# Altium integrated library Lattice FPGA ECP.IntLib: 165 symbols (part 1 of 27)
Pins are listed as number, name and electrical type; pins without a type are passive.

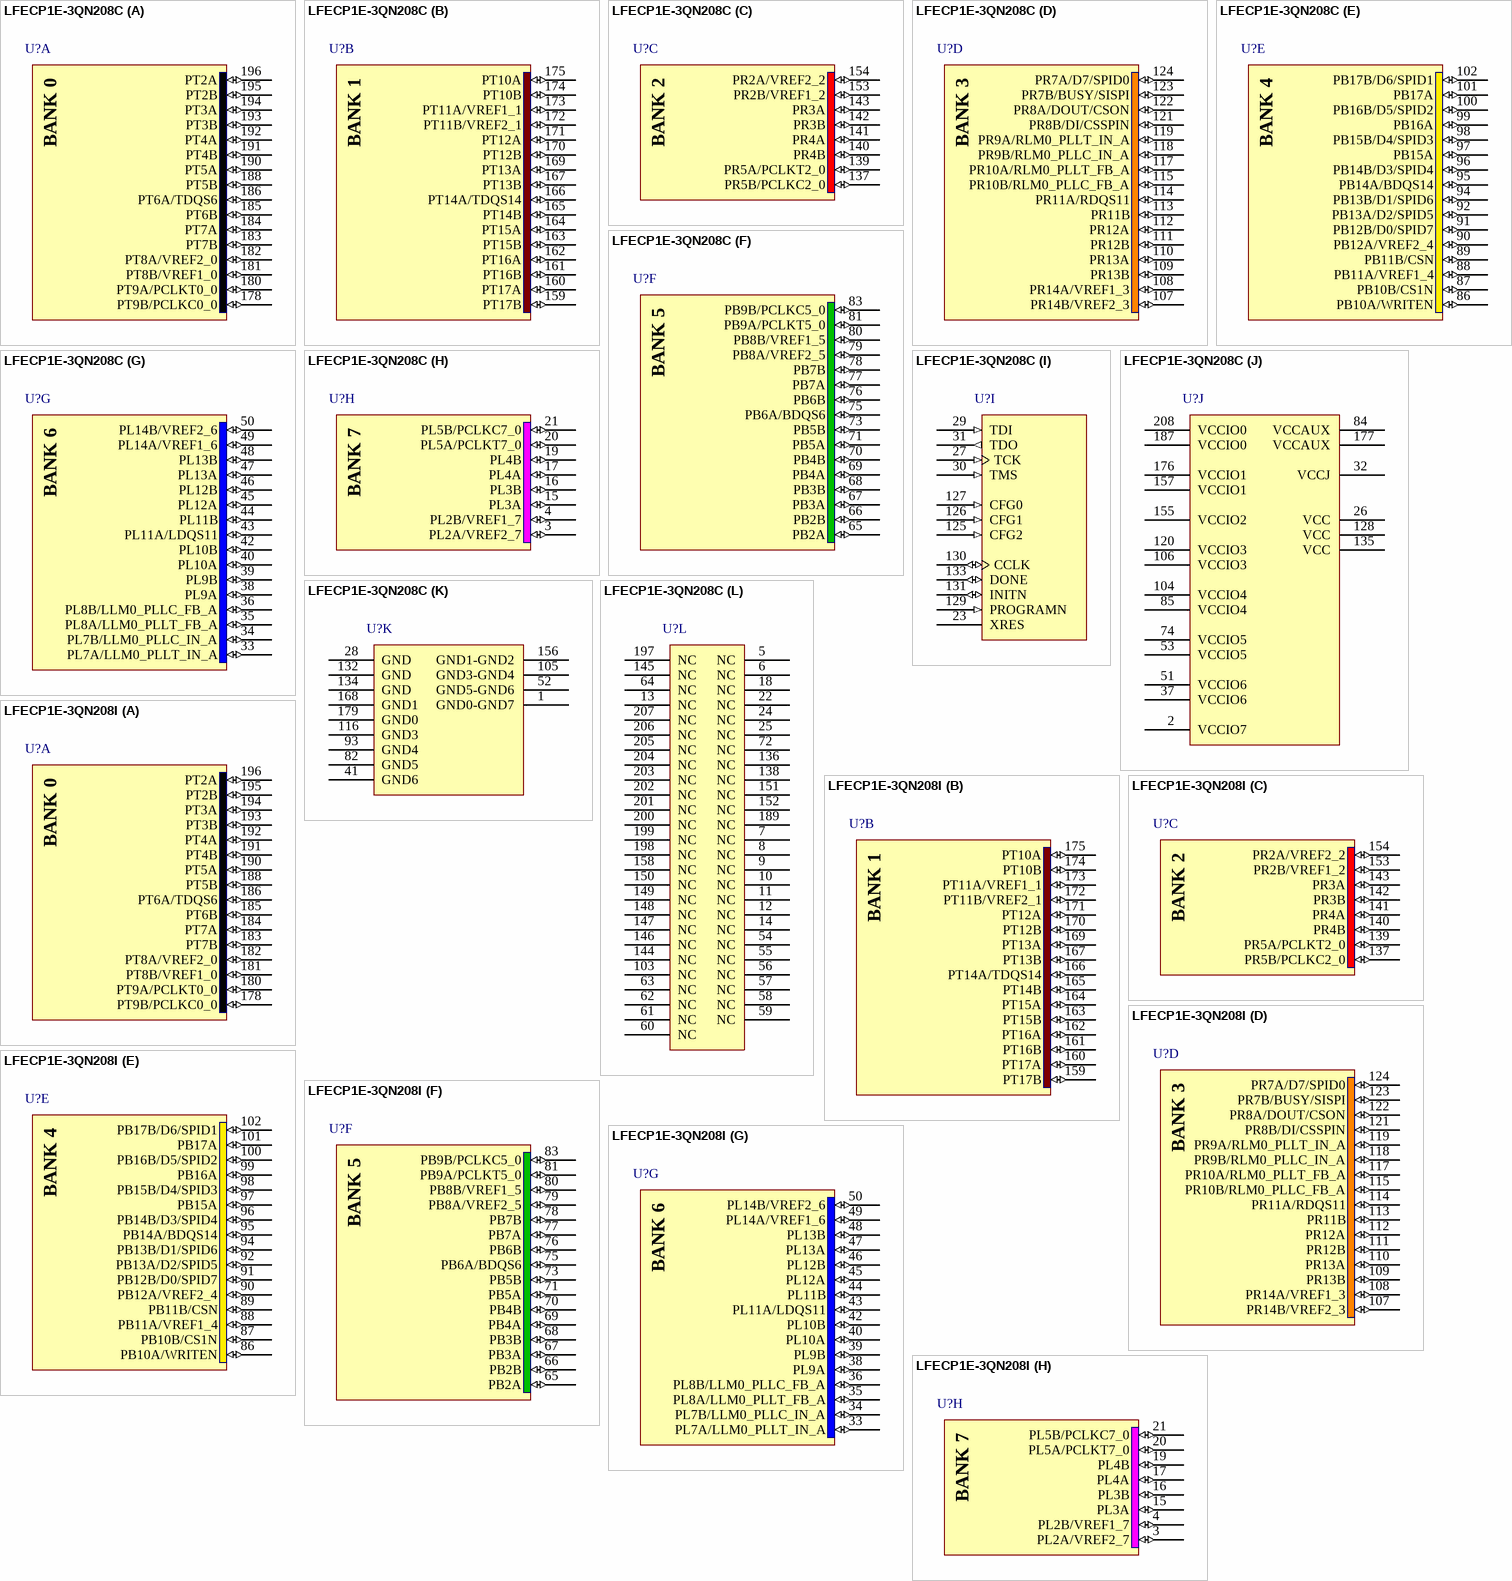
[diagram p0: symbols LFECP1E-3QN208C to LFECP1E-3QN208I]

## LFECP1E-3QN208C
designator U?
ECP 1.2V FPGA, 112 I/Os, 2 PLLs, 1.5K LUTs, 208-Pin PQFP, Pb-Free, Speed Grade 3, Commercial Temperature Grade; Note: Pins 1, 52, 105 and 156 are double bonded.; ComponentAvailability: Not Available; Published: 4-Mar-2005; LatestRevisionDate: 13-Apr-2006; LatestRevisionNote: IPC-7351 Footprint Added.; DatasheetVersion: Dec-2004; PackageVersion: pkg_33, Apr-2006; PackageReference: PQFP208; Publisher: Altium Limited; PackageDescription: 208-Pin Plastic Quad Flat Pack (PQFP208); Code_JEDEC: MO-143-FAI; ComponentLink1Description: Manufacturer Link; ComponentLink1URL: http://www.latticesemi.com/products/fpga/ecpec/index.cfm; ComponentLink2Description: Datasheet; ComponentLink2URL: http://www.latticesemi.com/lit/docs/datasheets/fpga/ecp_ec_datasheet.pdf; ComponentLink3Description: Packaging Specification; ComponentLink3URL: http://www.latticesemi.com/lit/docs/package/pkg.pdf; ComponentLink4Description: Lattice Login; ComponentLink4URL: http://www.latticesemi.com/account/login.cfm
footprint PQFP208_N (Shrink QFP, 208-Leads, Body 28x28mm, Pitch 0.5mm, IPC Medium Density)
footprint PQFP208_L (Shrink QFP, 208-Leads, Body 28x28mm, Pitch 0.5mm, IPC High Density)
footprint PQFP208_M (Shrink QFP, 208-Leads, Body 28x28mm, Pitch 0.5mm, IPC Low Density)
3D model ECP1E-PQFP-208 (208-Pin Plastic Quad Flat Pack (PQFP208))
part A pins: 178 PT9B/PCLKC0_0 (io), 180 PT9A/PCLKT0_0 (io), 181 PT8B/VREF1_0 (io), 182 PT8A/VREF2_0 (io), 183 PT7B (io), 184 PT7A (io), 185 PT6B (io), 186 PT6A/TDQS6 (io), 188 PT5B (io), 190 PT5A (io), 191 PT4B (io), 192 PT4A (io), 193 PT3B (io), 194 PT3A (io), 195 PT2B (io), 196 PT2A (io)
part B pins: 159 PT17B (io), 160 PT17A (io), 161 PT16B (io), 162 PT16A (io), 163 PT15B (io), 164 PT15A (io), 165 PT14B (io), 166 PT14A/TDQS14 (io), 167 PT13B (io), 169 PT13A (io), 170 PT12B (io), 171 PT12A (io), 172 PT11B/VREF2_1 (io), 173 PT11A/VREF1_1 (io), 174 PT10B (io), 175 PT10A (io)
part C pins: 137 PR5B/PCLKC2_0 (io), 139 PR5A/PCLKT2_0 (io), 140 PR4B (io), 141 PR4A (io), 142 PR3B (io), 143 PR3A (io), 153 PR2B/VREF1_2 (io), 154 PR2A/VREF2_2 (io)
part D pins: 107 PR14B/VREF2_3 (io), 108 PR14A/VREF1_3 (io), 109 PR13B (io), 110 PR13A (io), 111 PR12B (io), 112 PR12A (io), 113 PR11B (io), 114 PR11A/RDQS11 (io), 115 PR10B/RLM0_PLLC_FB_A (io), 117 PR10A/RLM0_PLLT_FB_A (io), 118 PR9B/RLM0_PLLC_IN_A (io), 119 PR9A/RLM0_PLLT_IN_A (io), 121 PR8B/DI/CSSPIN (io), 122 PR8A/DOUT/CSON (io), 123 PR7B/BUSY/SISPI (io), 124 PR7A/D7/SPID0 (io)
part E pins: 86 PB10A/WRITEN (io), 87 PB10B/CS1N (io), 88 PB11A/VREF1_4 (io), 89 PB11B/CSN (io), 90 PB12A/VREF2_4 (io), 91 PB12B/D0/SPID7 (io), 92 PB13A/D2/SPID5 (io), 94 PB13B/D1/SPID6 (io), 95 PB14A/BDQS14 (io), 96 PB14B/D3/SPID4 (io), 97 PB15A (io), 98 PB15B/D4/SPID3 (io), 99 PB16A (io), 100 PB16B/D5/SPID2 (io), 101 PB17A (io), 102 PB17B/D6/SPID1 (io)
part F pins: 65 PB2A (io), 66 PB2B (io), 67 PB3A (io), 68 PB3B (io), 69 PB4A (io), 70 PB4B (io), 71 PB5A (io), 73 PB5B (io), 75 PB6A/BDQS6 (io), 76 PB6B (io), 77 PB7A (io), 78 PB7B (io), 79 PB8A/VREF2_5 (io), 80 PB8B/VREF1_5 (io), 81 PB9A/PCLKT5_0 (io), 83 PB9B/PCLKC5_0 (io)
part G pins: 33 PL7A/LLM0_PLLT_IN_A (io), 34 PL7B/LLM0_PLLC_IN_A (io), 35 PL8A/LLM0_PLLT_FB_A (io), 36 PL8B/LLM0_PLLC_FB_A (io), 38 PL9A (io), 39 PL9B (io), 40 PL10A (io), 42 PL10B (io), 43 PL11A/LDQS11 (io), 44 PL11B (io), 45 PL12A (io), 46 PL12B (io), 47 PL13A (io), 48 PL13B (io), 49 PL14A/VREF1_6 (io), 50 PL14B/VREF2_6 (io)
part H pins: 3 PL2A/VREF2_7 (io), 4 PL2B/VREF1_7 (io), 15 PL3A (io), 16 PL3B (io), 17 PL4A (io), 19 PL4B (io), 20 PL5A/PCLKT7_0 (io), 21 PL5B/PCLKC7_0 (io)
part I pins: 23 XRES, 27 TCK (in), 29 TDI (in), 30 TMS (in), 31 TDO (out), 125 CFG2 (in), 126 CFG1 (in), 127 CFG0 (in), 129 PROGRAMN (in), 130 CCLK (io), 131 INITN (io), 133 DONE (io)
part J pins: 2 VCCIO7 (power), 26 VCC (power), 32 VCCJ (power), 37 VCCIO6 (power), 51 VCCIO6 (power), 53 VCCIO5 (power), 74 VCCIO5 (power), 84 VCCAUX (power), 85 VCCIO4 (power), 104 VCCIO4 (power), 106 VCCIO3 (power), 120 VCCIO3 (power), 128 VCC (power), 135 VCC (power), 155 VCCIO2 (power), 157 VCCIO1 (power), 176 VCCIO1 (power), 177 VCCAUX (power), 187 VCCIO0 (power), 208 VCCIO0 (power)
part K pins: 1 GND0-GND7 (power), 28 GND (power), 41 GND6 (power), 52 GND5-GND6 (power), 82 GND5 (power), 93 GND4 (power), 105 GND3-GND4 (power), 116 GND3 (power), 132 GND (power), 134 GND (power), 156 GND1-GND2 (power), 168 GND1 (power), 179 GND0 (power)
part L pins: 5 NC, 6 NC, 7 NC, 8 NC, 9 NC, 10 NC, 11 NC, 12 NC, 13 NC, 14 NC, 18 NC, 22 NC, 24 NC, 25 NC, 54 NC, 55 NC, 56 NC, 57 NC, 58 NC, 59 NC, 60 NC, 61 NC, 62 NC, 63 NC, 64 NC, 72 NC, 103 NC, 136 NC, 138 NC, 144 NC, 145 NC, 146 NC, 147 NC, 148 NC, 149 NC, 150 NC, 151 NC, 152 NC, 158 NC, 189 NC, 197 NC, 198 NC, 199 NC, 200 NC, 201 NC, 202 NC, 203 NC, 204 NC, 205 NC, 206 NC, 207 NC
part A text: BANK 0
part B text: BANK 1
part C text: BANK 2
part D text: BANK 3
part E text: BANK 4
part F text: BANK 5
part G text: BANK 6
part H text: BANK 7

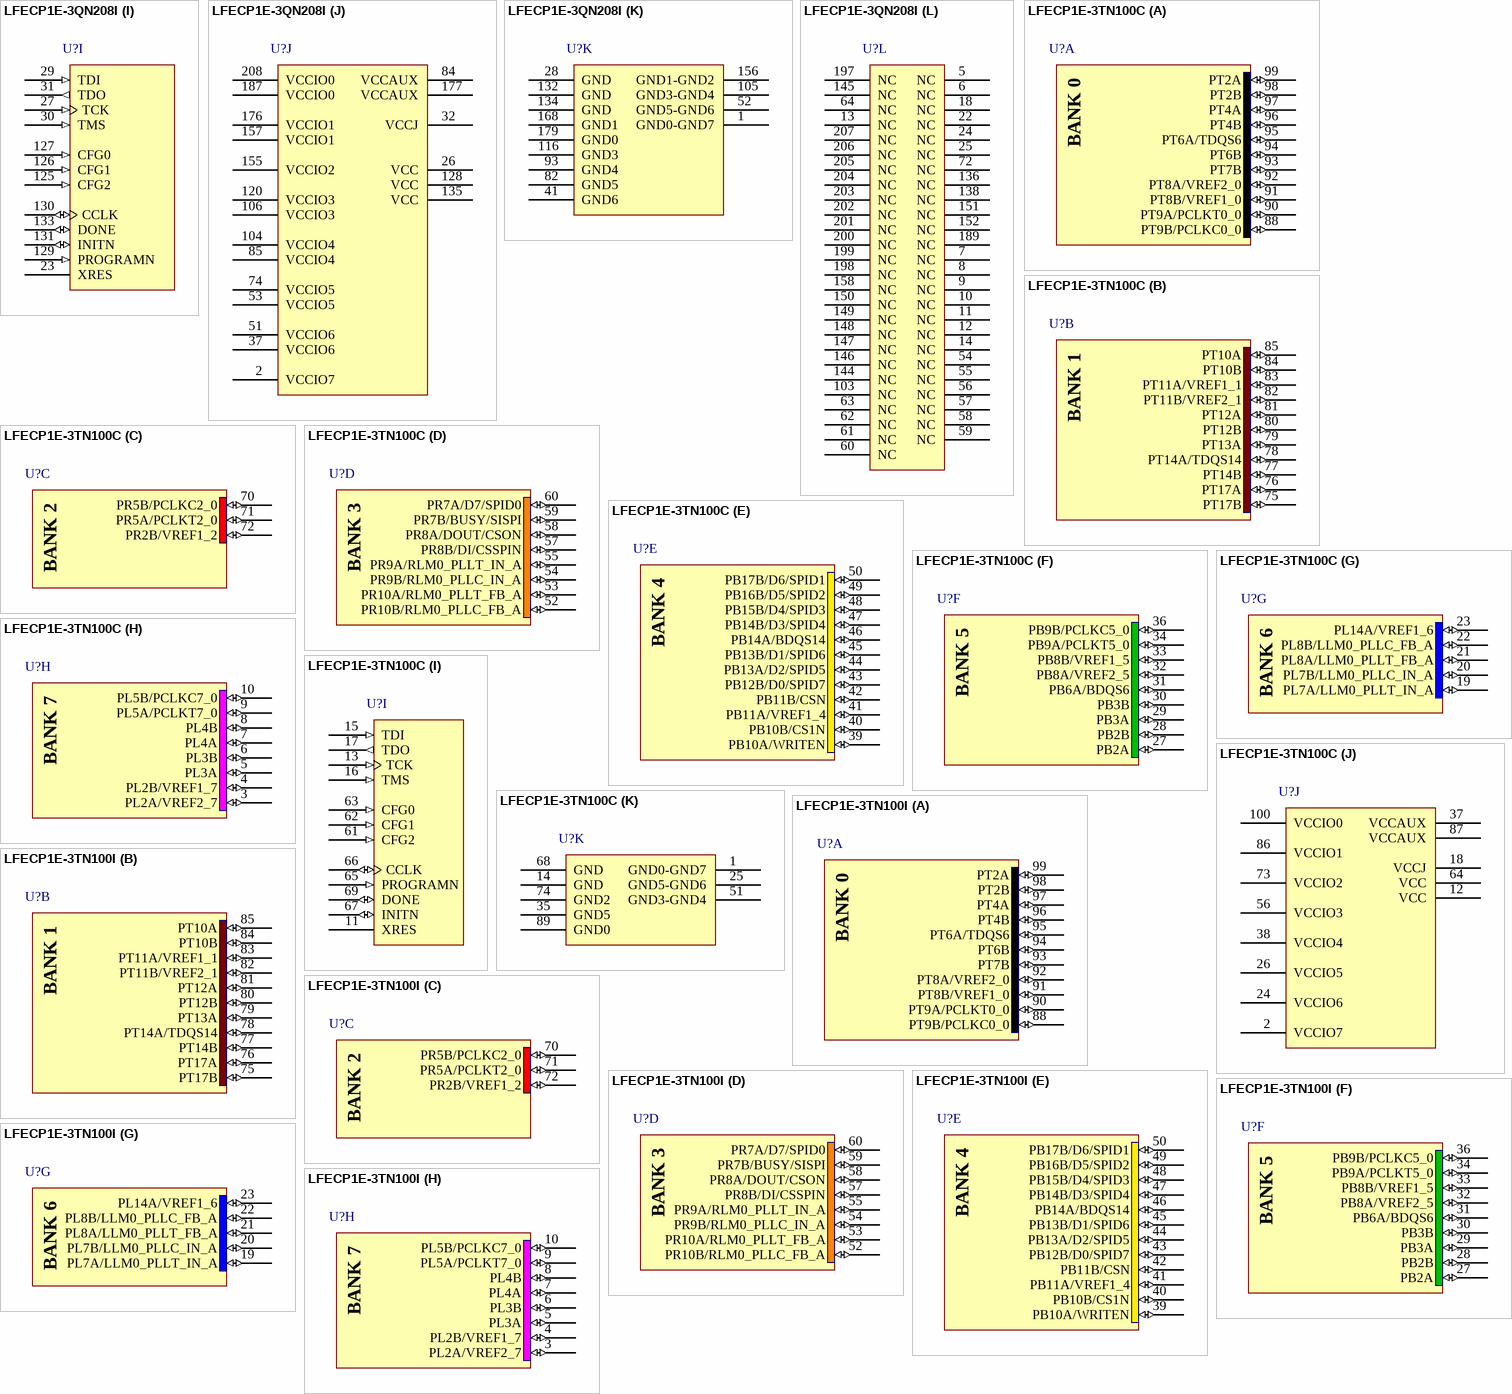
[diagram p1: symbols LFECP1E-3QN208I to LFECP1E-3TN100I]

## LFECP1E-3QN208I
designator U?
ECP 1.2V FPGA, 112 I/Os, 2 PLLs, 1.5K LUTs, 208-Pin PQFP, Pb-Free, Speed Grade 3, Industrial Temperature Grade; Note: Pins 1, 52, 105 and 156 are double bonded.; ComponentAvailability: Not Available; Published: 4-Mar-2005; LatestRevisionDate: 13-Apr-2006; LatestRevisionNote: IPC-7351 Footprint Added.; DatasheetVersion: Dec-2004; PackageVersion: pkg_33, Apr-2006; PackageReference: PQFP208; Publisher: Altium Limited; PackageDescription: 208-Pin Plastic Quad Flat Pack (PQFP208); Code_JEDEC: MO-143-FAI; ComponentLink1Description: Manufacturer Link; ComponentLink1URL: http://www.latticesemi.com/products/fpga/ecpec/index.cfm; ComponentLink2Description: Datasheet; ComponentLink2URL: http://www.latticesemi.com/lit/docs/datasheets/fpga/ecp_ec_datasheet.pdf; ComponentLink3Description: Packaging Specification; ComponentLink3URL: http://www.latticesemi.com/lit/docs/package/pkg.pdf; ComponentLink4Description: Lattice Login; ComponentLink4URL: http://www.latticesemi.com/account/login.cfm
footprint PQFP208_N (Shrink QFP, 208-Leads, Body 28x28mm, Pitch 0.5mm, IPC Medium Density)
footprint PQFP208_L (Shrink QFP, 208-Leads, Body 28x28mm, Pitch 0.5mm, IPC High Density)
footprint PQFP208_M (Shrink QFP, 208-Leads, Body 28x28mm, Pitch 0.5mm, IPC Low Density)
3D model ECP1E-PQFP-208 (208-Pin Plastic Quad Flat Pack (PQFP208))
part A pins: 178 PT9B/PCLKC0_0 (io), 180 PT9A/PCLKT0_0 (io), 181 PT8B/VREF1_0 (io), 182 PT8A/VREF2_0 (io), 183 PT7B (io), 184 PT7A (io), 185 PT6B (io), 186 PT6A/TDQS6 (io), 188 PT5B (io), 190 PT5A (io), 191 PT4B (io), 192 PT4A (io), 193 PT3B (io), 194 PT3A (io), 195 PT2B (io), 196 PT2A (io)
part B pins: 159 PT17B (io), 160 PT17A (io), 161 PT16B (io), 162 PT16A (io), 163 PT15B (io), 164 PT15A (io), 165 PT14B (io), 166 PT14A/TDQS14 (io), 167 PT13B (io), 169 PT13A (io), 170 PT12B (io), 171 PT12A (io), 172 PT11B/VREF2_1 (io), 173 PT11A/VREF1_1 (io), 174 PT10B (io), 175 PT10A (io)
part C pins: 137 PR5B/PCLKC2_0 (io), 139 PR5A/PCLKT2_0 (io), 140 PR4B (io), 141 PR4A (io), 142 PR3B (io), 143 PR3A (io), 153 PR2B/VREF1_2 (io), 154 PR2A/VREF2_2 (io)
part D pins: 107 PR14B/VREF2_3 (io), 108 PR14A/VREF1_3 (io), 109 PR13B (io), 110 PR13A (io), 111 PR12B (io), 112 PR12A (io), 113 PR11B (io), 114 PR11A/RDQS11 (io), 115 PR10B/RLM0_PLLC_FB_A (io), 117 PR10A/RLM0_PLLT_FB_A (io), 118 PR9B/RLM0_PLLC_IN_A (io), 119 PR9A/RLM0_PLLT_IN_A (io), 121 PR8B/DI/CSSPIN (io), 122 PR8A/DOUT/CSON (io), 123 PR7B/BUSY/SISPI (io), 124 PR7A/D7/SPID0 (io)
part E pins: 86 PB10A/WRITEN (io), 87 PB10B/CS1N (io), 88 PB11A/VREF1_4 (io), 89 PB11B/CSN (io), 90 PB12A/VREF2_4 (io), 91 PB12B/D0/SPID7 (io), 92 PB13A/D2/SPID5 (io), 94 PB13B/D1/SPID6 (io), 95 PB14A/BDQS14 (io), 96 PB14B/D3/SPID4 (io), 97 PB15A (io), 98 PB15B/D4/SPID3 (io), 99 PB16A (io), 100 PB16B/D5/SPID2 (io), 101 PB17A (io), 102 PB17B/D6/SPID1 (io)
part F pins: 65 PB2A (io), 66 PB2B (io), 67 PB3A (io), 68 PB3B (io), 69 PB4A (io), 70 PB4B (io), 71 PB5A (io), 73 PB5B (io), 75 PB6A/BDQS6 (io), 76 PB6B (io), 77 PB7A (io), 78 PB7B (io), 79 PB8A/VREF2_5 (io), 80 PB8B/VREF1_5 (io), 81 PB9A/PCLKT5_0 (io), 83 PB9B/PCLKC5_0 (io)
part G pins: 33 PL7A/LLM0_PLLT_IN_A (io), 34 PL7B/LLM0_PLLC_IN_A (io), 35 PL8A/LLM0_PLLT_FB_A (io), 36 PL8B/LLM0_PLLC_FB_A (io), 38 PL9A (io), 39 PL9B (io), 40 PL10A (io), 42 PL10B (io), 43 PL11A/LDQS11 (io), 44 PL11B (io), 45 PL12A (io), 46 PL12B (io), 47 PL13A (io), 48 PL13B (io), 49 PL14A/VREF1_6 (io), 50 PL14B/VREF2_6 (io)
part H pins: 3 PL2A/VREF2_7 (io), 4 PL2B/VREF1_7 (io), 15 PL3A (io), 16 PL3B (io), 17 PL4A (io), 19 PL4B (io), 20 PL5A/PCLKT7_0 (io), 21 PL5B/PCLKC7_0 (io)
part I pins: 23 XRES, 27 TCK (in), 29 TDI (in), 30 TMS (in), 31 TDO (out), 125 CFG2 (in), 126 CFG1 (in), 127 CFG0 (in), 129 PROGRAMN (in), 130 CCLK (io), 131 INITN (io), 133 DONE (io)
part J pins: 2 VCCIO7 (power), 26 VCC (power), 32 VCCJ (power), 37 VCCIO6 (power), 51 VCCIO6 (power), 53 VCCIO5 (power), 74 VCCIO5 (power), 84 VCCAUX (power), 85 VCCIO4 (power), 104 VCCIO4 (power), 106 VCCIO3 (power), 120 VCCIO3 (power), 128 VCC (power), 135 VCC (power), 155 VCCIO2 (power), 157 VCCIO1 (power), 176 VCCIO1 (power), 177 VCCAUX (power), 187 VCCIO0 (power), 208 VCCIO0 (power)
part K pins: 1 GND0-GND7 (power), 28 GND (power), 41 GND6 (power), 52 GND5-GND6 (power), 82 GND5 (power), 93 GND4 (power), 105 GND3-GND4 (power), 116 GND3 (power), 132 GND (power), 134 GND (power), 156 GND1-GND2 (power), 168 GND1 (power), 179 GND0 (power)
part L pins: 5 NC, 6 NC, 7 NC, 8 NC, 9 NC, 10 NC, 11 NC, 12 NC, 13 NC, 14 NC, 18 NC, 22 NC, 24 NC, 25 NC, 54 NC, 55 NC, 56 NC, 57 NC, 58 NC, 59 NC, 60 NC, 61 NC, 62 NC, 63 NC, 64 NC, 72 NC, 103 NC, 136 NC, 138 NC, 144 NC, 145 NC, 146 NC, 147 NC, 148 NC, 149 NC, 150 NC, 151 NC, 152 NC, 158 NC, 189 NC, 197 NC, 198 NC, 199 NC, 200 NC, 201 NC, 202 NC, 203 NC, 204 NC, 205 NC, 206 NC, 207 NC
part A text: BANK 0
part B text: BANK 1
part C text: BANK 2
part D text: BANK 3
part E text: BANK 4
part F text: BANK 5
part G text: BANK 6
part H text: BANK 7

## LFECP1E-3TN100C
designator U?
ECP 1.2V FPGA, 67 I/Os, 2 PLLs, 1.5K LUTs, 100-Pin TQFP, Pb-Free, Speed Grade 3, Commercial Temperature Grade; Note: Pins 1, 25 and 51 are double bonded.; ComponentAvailability: Not Available; Published: 4-Mar-2005; LatestRevisionDate: 13-Apr-2006; LatestRevisionNote: IPC-7351 Footprint Added.; DatasheetVersion: Dec-2004; PackageVersion: pkg_33, Apr-2006; PackageReference: TQFP100; Publisher: Altium Limited; PackageDescription: 100-Pin Thin Quad Flat Pack (TQFP100); Code_JEDEC: MS-026-BED; ComponentLink1Description: Manufacturer Link; ComponentLink1URL: http://www.latticesemi.com/products/fpga/ecpec/index.cfm; ComponentLink2Description: Datasheet; ComponentLink2URL: http://www.latticesemi.com/lit/docs/datasheets/fpga/ecp_ec_datasheet.pdf; ComponentLink3Description: Packaging Specification; ComponentLink3URL: http://www.latticesemi.com/lit/docs/package/pkg.pdf; ComponentLink4Description: Lattice Login; ComponentLink4URL: http://www.latticesemi.com/account/login.cfm
footprint TQFP100_N (Thin QFP, 100-Leads, Body 14x14mm, Pitch 0.5mm, IPC Medium Density)
footprint TQFP100_L (Thin QFP, 100-Leads, Body 14x14mm, Pitch 0.5mm, IPC High Density)
footprint TQFP100_M (Thin QFP, 100-Leads, Body 14x14mm, Pitch 0.5mm, IPC Low Density)
3D model ECP1E-TQFP-100 (100-Pin Thin Quad Flat Pack (TQFP100))
part A pins: 88 PT9B/PCLKC0_0 (io), 90 PT9A/PCLKT0_0 (io), 91 PT8B/VREF1_0 (io), 92 PT8A/VREF2_0 (io), 93 PT7B (io), 94 PT6B (io), 95 PT6A/TDQS6 (io), 96 PT4B (io), 97 PT4A (io), 98 PT2B (io), 99 PT2A (io)
part B pins: 75 PT17B (io), 76 PT17A (io), 77 PT14B (io), 78 PT14A/TDQS14 (io), 79 PT13A (io), 80 PT12B (io), 81 PT12A (io), 82 PT11B/VREF2_1 (io), 83 PT11A/VREF1_1 (io), 84 PT10B (io), 85 PT10A (io)
part C pins: 70 PR5B/PCLKC2_0 (io), 71 PR5A/PCLKT2_0 (io), 72 PR2B/VREF1_2 (io)
part D pins: 52 PR10B/RLM0_PLLC_FB_A (io), 53 PR10A/RLM0_PLLT_FB_A (io), 54 PR9B/RLM0_PLLC_IN_A (io), 55 PR9A/RLM0_PLLT_IN_A (io), 57 PR8B/DI/CSSPIN (io), 58 PR8A/DOUT/CSON (io), 59 PR7B/BUSY/SISPI (io), 60 PR7A/D7/SPID0 (io)
part E pins: 39 PB10A/WRITEN (io), 40 PB10B/CS1N (io), 41 PB11A/VREF1_4 (io), 42 PB11B/CSN (io), 43 PB12B/D0/SPID7 (io), 44 PB13A/D2/SPID5 (io), 45 PB13B/D1/SPID6 (io), 46 PB14A/BDQS14 (io), 47 PB14B/D3/SPID4 (io), 48 PB15B/D4/SPID3 (io), 49 PB16B/D5/SPID2 (io), 50 PB17B/D6/SPID1 (io)
part F pins: 27 PB2A (io), 28 PB2B (io), 29 PB3A (io), 30 PB3B (io), 31 PB6A/BDQS6 (io), 32 PB8A/VREF2_5 (io), 33 PB8B/VREF1_5 (io), 34 PB9A/PCLKT5_0 (io), 36 PB9B/PCLKC5_0 (io)
part G pins: 19 PL7A/LLM0_PLLT_IN_A (io), 20 PL7B/LLM0_PLLC_IN_A (io), 21 PL8A/LLM0_PLLT_FB_A (io), 22 PL8B/LLM0_PLLC_FB_A (io), 23 PL14A/VREF1_6 (io)
part H pins: 3 PL2A/VREF2_7 (io), 4 PL2B/VREF1_7 (io), 5 PL3A (io), 6 PL3B (io), 7 PL4A (io), 8 PL4B (io), 9 PL5A/PCLKT7_0 (io), 10 PL5B/PCLKC7_0 (io)
part I pins: 11 XRES, 13 TCK (in), 15 TDI (in), 16 TMS (in), 17 TDO (out), 61 CFG2 (in), 62 CFG1 (in), 63 CFG0 (in), 65 PROGRAMN (in), 66 CCLK (io), 67 INITN (io), 69 DONE (io)
part J pins: 2 VCCIO7 (power), 12 VCC (power), 18 VCCJ (power), 24 VCCIO6 (power), 26 VCCIO5 (power), 37 VCCAUX (power), 38 VCCIO4 (power), 56 VCCIO3 (power), 64 VCC (power), 73 VCCIO2 (power), 86 VCCIO1 (power), 87 VCCAUX (power), 100 VCCIO0 (power)
part K pins: 1 GND0-GND7 (power), 14 GND (power), 25 GND5-GND6 (power), 35 GND5 (power), 51 GND3-GND4 (power), 68 GND (power), 74 GND2 (power), 89 GND0 (power)
part A text: BANK 0
part B text: BANK 1
part C text: BANK 2
part D text: BANK 3
part E text: BANK 4
part F text: BANK 5
part G text: BANK 6
part H text: BANK 7

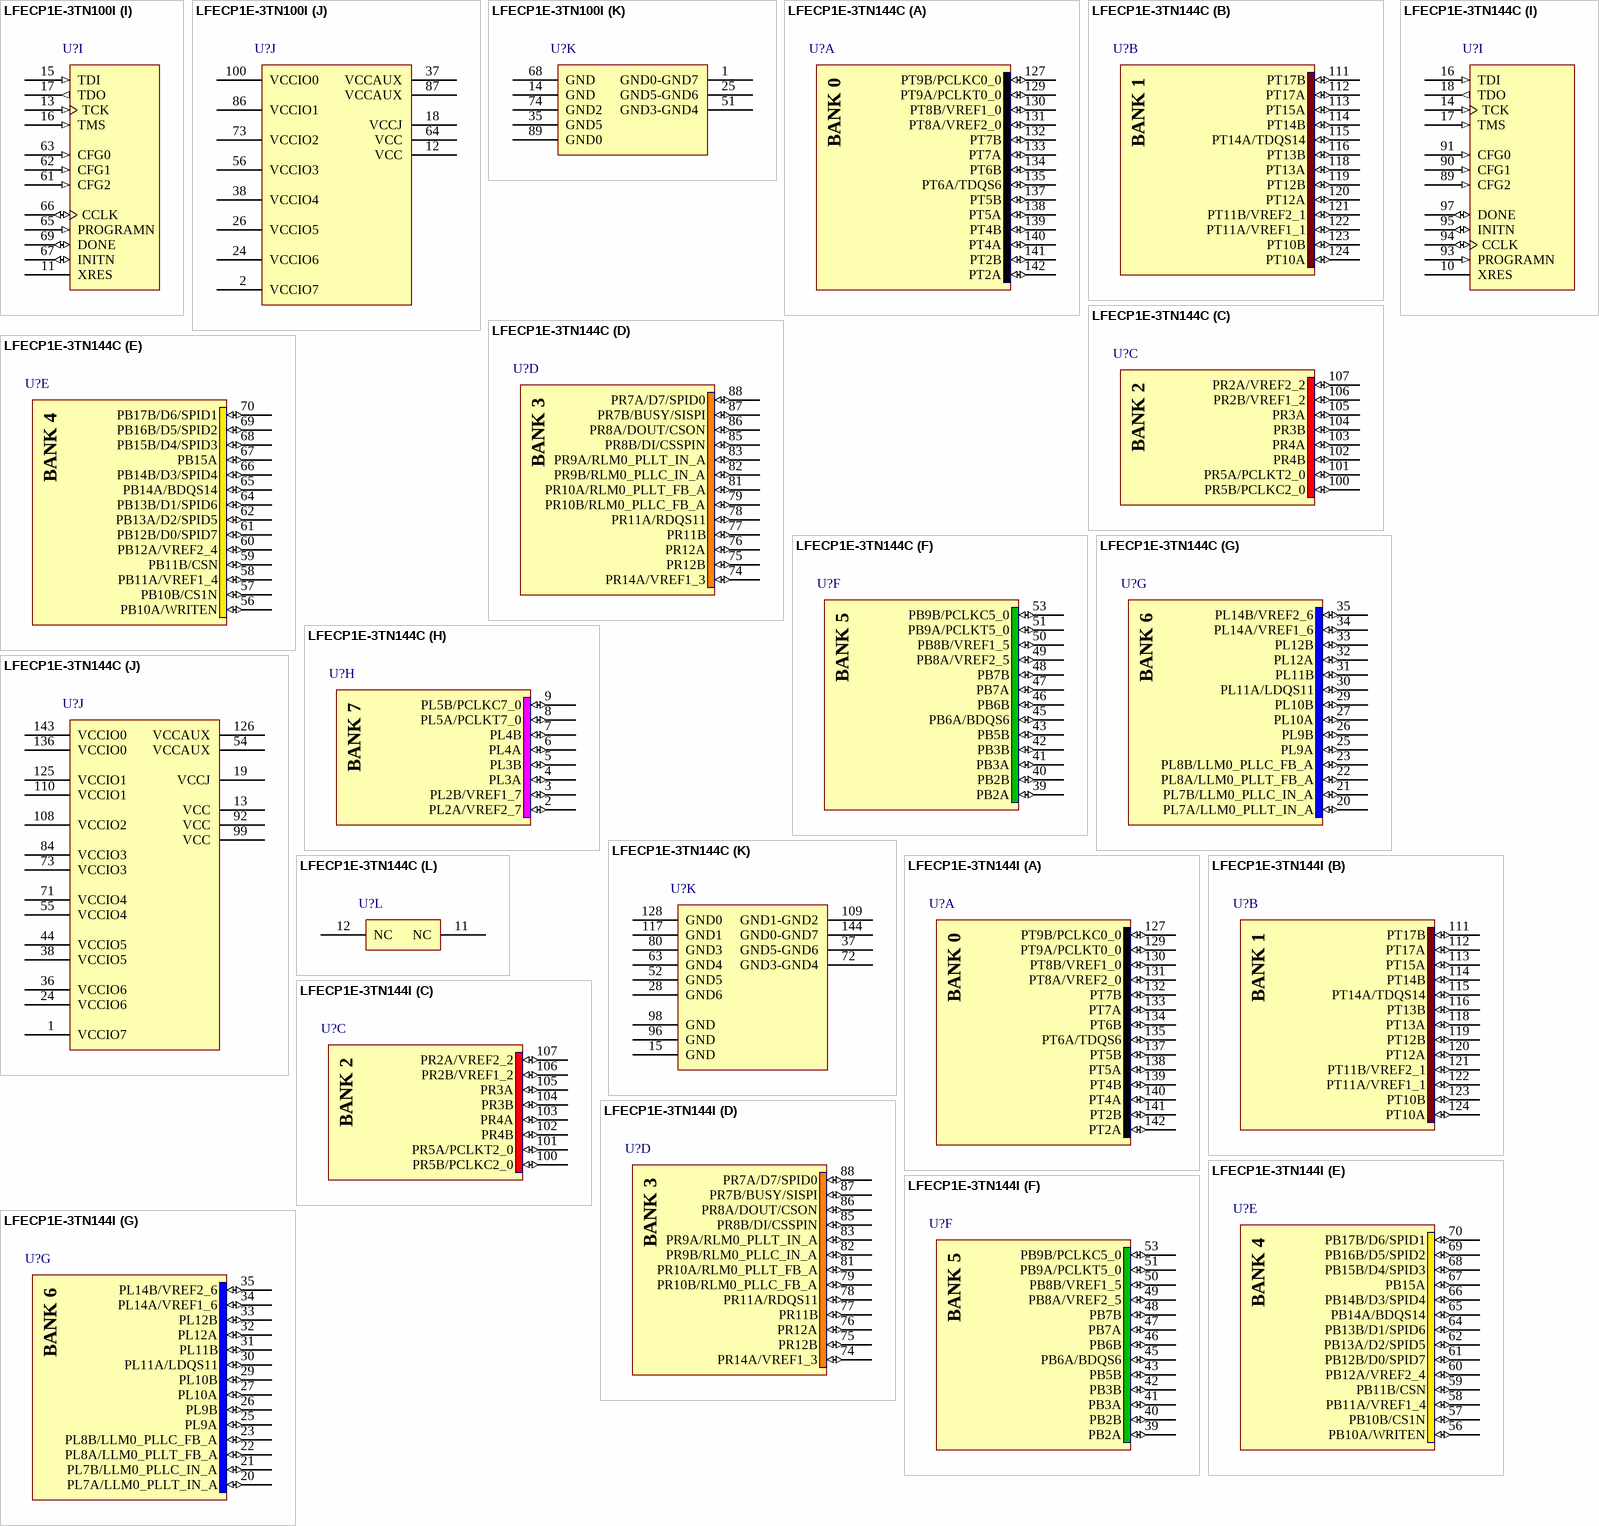
[diagram p2: symbols LFECP1E-3TN100I to LFECP1E-3TN144I]

## LFECP1E-3TN100I
designator U?
ECP 1.2V FPGA, 67 I/Os, 2 PLLs, 1.5K LUTs, 100-Pin TQFP, Pb-Free, Speed Grade 3, Industrial Temperature Grade; Note: Pins 1, 25 and 51 are double bonded.; ComponentAvailability: Not Available; Published: 4-Mar-2005; LatestRevisionDate: 13-Apr-2006; LatestRevisionNote: IPC-7351 Footprint Added.; DatasheetVersion: Dec-2004; PackageVersion: pkg_33, Apr-2006; PackageReference: TQFP100; Publisher: Altium Limited; PackageDescription: 100-Pin Thin Quad Flat Pack (TQFP100); Code_JEDEC: MS-026-BED; ComponentLink1Description: Manufacturer Link; ComponentLink1URL: http://www.latticesemi.com/products/fpga/ecpec/index.cfm; ComponentLink2Description: Datasheet; ComponentLink2URL: http://www.latticesemi.com/lit/docs/datasheets/fpga/ecp_ec_datasheet.pdf; ComponentLink3Description: Packaging Specification; ComponentLink3URL: http://www.latticesemi.com/lit/docs/package/pkg.pdf; ComponentLink4Description: Lattice Login; ComponentLink4URL: http://www.latticesemi.com/account/login.cfm
footprint TQFP100_N (Thin QFP, 100-Leads, Body 14x14mm, Pitch 0.5mm, IPC Medium Density)
footprint TQFP100_L (Thin QFP, 100-Leads, Body 14x14mm, Pitch 0.5mm, IPC High Density)
footprint TQFP100_M (Thin QFP, 100-Leads, Body 14x14mm, Pitch 0.5mm, IPC Low Density)
3D model ECP1E-TQFP-100 (100-Pin Thin Quad Flat Pack (TQFP100))
part A pins: 88 PT9B/PCLKC0_0 (io), 90 PT9A/PCLKT0_0 (io), 91 PT8B/VREF1_0 (io), 92 PT8A/VREF2_0 (io), 93 PT7B (io), 94 PT6B (io), 95 PT6A/TDQS6 (io), 96 PT4B (io), 97 PT4A (io), 98 PT2B (io), 99 PT2A (io)
part B pins: 75 PT17B (io), 76 PT17A (io), 77 PT14B (io), 78 PT14A/TDQS14 (io), 79 PT13A (io), 80 PT12B (io), 81 PT12A (io), 82 PT11B/VREF2_1 (io), 83 PT11A/VREF1_1 (io), 84 PT10B (io), 85 PT10A (io)
part C pins: 70 PR5B/PCLKC2_0 (io), 71 PR5A/PCLKT2_0 (io), 72 PR2B/VREF1_2 (io)
part D pins: 52 PR10B/RLM0_PLLC_FB_A (io), 53 PR10A/RLM0_PLLT_FB_A (io), 54 PR9B/RLM0_PLLC_IN_A (io), 55 PR9A/RLM0_PLLT_IN_A (io), 57 PR8B/DI/CSSPIN (io), 58 PR8A/DOUT/CSON (io), 59 PR7B/BUSY/SISPI (io), 60 PR7A/D7/SPID0 (io)
part E pins: 39 PB10A/WRITEN (io), 40 PB10B/CS1N (io), 41 PB11A/VREF1_4 (io), 42 PB11B/CSN (io), 43 PB12B/D0/SPID7 (io), 44 PB13A/D2/SPID5 (io), 45 PB13B/D1/SPID6 (io), 46 PB14A/BDQS14 (io), 47 PB14B/D3/SPID4 (io), 48 PB15B/D4/SPID3 (io), 49 PB16B/D5/SPID2 (io), 50 PB17B/D6/SPID1 (io)
part F pins: 27 PB2A (io), 28 PB2B (io), 29 PB3A (io), 30 PB3B (io), 31 PB6A/BDQS6 (io), 32 PB8A/VREF2_5 (io), 33 PB8B/VREF1_5 (io), 34 PB9A/PCLKT5_0 (io), 36 PB9B/PCLKC5_0 (io)
part G pins: 19 PL7A/LLM0_PLLT_IN_A (io), 20 PL7B/LLM0_PLLC_IN_A (io), 21 PL8A/LLM0_PLLT_FB_A (io), 22 PL8B/LLM0_PLLC_FB_A (io), 23 PL14A/VREF1_6 (io)
part H pins: 3 PL2A/VREF2_7 (io), 4 PL2B/VREF1_7 (io), 5 PL3A (io), 6 PL3B (io), 7 PL4A (io), 8 PL4B (io), 9 PL5A/PCLKT7_0 (io), 10 PL5B/PCLKC7_0 (io)
part I pins: 11 XRES, 13 TCK (in), 15 TDI (in), 16 TMS (in), 17 TDO (out), 61 CFG2 (in), 62 CFG1 (in), 63 CFG0 (in), 65 PROGRAMN (in), 66 CCLK (io), 67 INITN (io), 69 DONE (io)
part J pins: 2 VCCIO7 (power), 12 VCC (power), 18 VCCJ (power), 24 VCCIO6 (power), 26 VCCIO5 (power), 37 VCCAUX (power), 38 VCCIO4 (power), 56 VCCIO3 (power), 64 VCC (power), 73 VCCIO2 (power), 86 VCCIO1 (power), 87 VCCAUX (power), 100 VCCIO0 (power)
part K pins: 1 GND0-GND7 (power), 14 GND (power), 25 GND5-GND6 (power), 35 GND5 (power), 51 GND3-GND4 (power), 68 GND (power), 74 GND2 (power), 89 GND0 (power)
part A text: BANK 0
part B text: BANK 1
part C text: BANK 2
part D text: BANK 3
part E text: BANK 4
part F text: BANK 5
part G text: BANK 6
part H text: BANK 7

## LFECP1E-3TN144C
designator U?
ECP 1.2V FPGA, 97 I/Os, 2 PLLs, 1.5K LUTs, 144-Pin TQFP, Pb-Free, Speed Grade 3, Commercial Temperature Grade; Note: Pins 37, 72, 109 and 144 are double bonded.; ComponentAvailability: Not Available; Published: 4-Mar-2005; LatestRevisionDate: 13-Apr-2006; LatestRevisionNote: IPC-7351 Footprint Added.; DatasheetVersion: Dec-2004; PackageVersion: pkg_33, Apr-2006; PackageReference: TQFP144; Publisher: Altium Limited; PackageDescription: 144-Pin Thin Quad Flat Pack (TQFP144); Code_JEDEC: MS-026-BFB; ComponentLink1Description: Manufacturer Link; ComponentLink1URL: http://www.latticesemi.com/products/fpga/ecpec/index.cfm; ComponentLink2Description: Datasheet; ComponentLink2URL: http://www.latticesemi.com/lit/docs/datasheets/fpga/ecp_ec_datasheet.pdf; ComponentLink3Description: Packaging Specification; ComponentLink3URL: http://www.latticesemi.com/lit/docs/package/pkg.pdf; ComponentLink4Description: Lattice Login; ComponentLink4URL: http://www.latticesemi.com/account/login.cfm
footprint TQFP144_N (Thin QFP, 144-Leads, Body 20x20mm, Pitch 0.5mm, IPC Medium Density)
footprint TQFP144_L (Thin QFP, 144-Leads, Body 20x20mm, Pitch 0.5mm, IPC High Density)
footprint TQFP144_M (Thin QFP, 144-Leads, Body 20x20mm, Pitch 0.5mm, IPC Low Density)
3D model ECP1E-TQFP-144 (144-Pin Thin Quad Flat Pack (TQFP144))
part A pins: 127 PT9B/PCLKC0_0 (io), 129 PT9A/PCLKT0_0 (io), 130 PT8B/VREF1_0 (io), 131 PT8A/VREF2_0 (io), 132 PT7B (io), 133 PT7A (io), 134 PT6B (io), 135 PT6A/TDQS6 (io), 137 PT5B (io), 138 PT5A (io), 139 PT4B (io), 140 PT4A (io), 141 PT2B (io), 142 PT2A (io)
part B pins: 111 PT17B (io), 112 PT17A (io), 113 PT15A (io), 114 PT14B (io), 115 PT14A/TDQS14 (io), 116 PT13B (io), 118 PT13A (io), 119 PT12B (io), 120 PT12A (io), 121 PT11B/VREF2_1 (io), 122 PT11A/VREF1_1 (io), 123 PT10B (io), 124 PT10A (io)
part C pins: 100 PR5B/PCLKC2_0 (io), 101 PR5A/PCLKT2_0 (io), 102 PR4B (io), 103 PR4A (io), 104 PR3B (io), 105 PR3A (io), 106 PR2B/VREF1_2 (io), 107 PR2A/VREF2_2 (io)
part D pins: 74 PR14A/VREF1_3 (io), 75 PR12B (io), 76 PR12A (io), 77 PR11B (io), 78 PR11A/RDQS11 (io), 79 PR10B/RLM0_PLLC_FB_A (io), 81 PR10A/RLM0_PLLT_FB_A (io), 82 PR9B/RLM0_PLLC_IN_A (io), 83 PR9A/RLM0_PLLT_IN_A (io), 85 PR8B/DI/CSSPIN (io), 86 PR8A/DOUT/CSON (io), 87 PR7B/BUSY/SISPI (io), 88 PR7A/D7/SPID0 (io)
part E pins: 56 PB10A/WRITEN (io), 57 PB10B/CS1N (io), 58 PB11A/VREF1_4 (io), 59 PB11B/CSN (io), 60 PB12A/VREF2_4 (io), 61 PB12B/D0/SPID7 (io), 62 PB13A/D2/SPID5 (io), 64 PB13B/D1/SPID6 (io), 65 PB14A/BDQS14 (io), 66 PB14B/D3/SPID4 (io), 67 PB15A (io), 68 PB15B/D4/SPID3 (io), 69 PB16B/D5/SPID2 (io), 70 PB17B/D6/SPID1 (io)
part F pins: 39 PB2A (io), 40 PB2B (io), 41 PB3A (io), 42 PB3B (io), 43 PB5B (io), 45 PB6A/BDQS6 (io), 46 PB6B (io), 47 PB7A (io), 48 PB7B (io), 49 PB8A/VREF2_5 (io), 50 PB8B/VREF1_5 (io), 51 PB9A/PCLKT5_0 (io), 53 PB9B/PCLKC5_0 (io)
part G pins: 20 PL7A/LLM0_PLLT_IN_A (io), 21 PL7B/LLM0_PLLC_IN_A (io), 22 PL8A/LLM0_PLLT_FB_A (io), 23 PL8B/LLM0_PLLC_FB_A (io), 25 PL9A (io), 26 PL9B (io), 27 PL10A (io), 29 PL10B (io), 30 PL11A/LDQS11 (io), 31 PL11B (io), 32 PL12A (io), 33 PL12B (io), 34 PL14A/VREF1_6 (io), 35 PL14B/VREF2_6 (io)
part H pins: 2 PL2A/VREF2_7 (io), 3 PL2B/VREF1_7 (io), 4 PL3A (io), 5 PL3B (io), 6 PL4A (io), 7 PL4B (io), 8 PL5A/PCLKT7_0 (io), 9 PL5B/PCLKC7_0 (io)
part I pins: 10 XRES, 14 TCK (in), 16 TDI (in), 17 TMS (in), 18 TDO (out), 89 CFG2 (in), 90 CFG1 (in), 91 CFG0 (in), 93 PROGRAMN (in), 94 CCLK (io), 95 INITN (io), 97 DONE (io)
part J pins: 1 VCCIO7 (power), 13 VCC (power), 19 VCCJ (power), 24 VCCIO6 (power), 36 VCCIO6 (power), 38 VCCIO5 (power), 44 VCCIO5 (power), 54 VCCAUX (power), 55 VCCIO4 (power), 71 VCCIO4 (power), 73 VCCIO3 (power), 84 VCCIO3 (power), 92 VCC (power), 99 VCC (power), 108 VCCIO2 (power), 110 VCCIO1 (power), 125 VCCIO1 (power), 126 VCCAUX (power), 136 VCCIO0 (power), 143 VCCIO0 (power)
part K pins: 15 GND (power), 28 GND6 (power), 37 GND5-GND6 (power), 52 GND5 (power), 63 GND4 (power), 72 GND3-GND4 (power), 80 GND3 (power), 96 GND (power), 98 GND (power), 109 GND1-GND2 (power), 117 GND1 (power), 128 GND0 (power), 144 GND0-GND7 (power)
part L pins: 11 NC, 12 NC
part A text: BANK 0
part B text: BANK 1
part C text: BANK 2
part D text: BANK 3
part E text: BANK 4
part F text: BANK 5
part G text: BANK 6
part H text: BANK 7

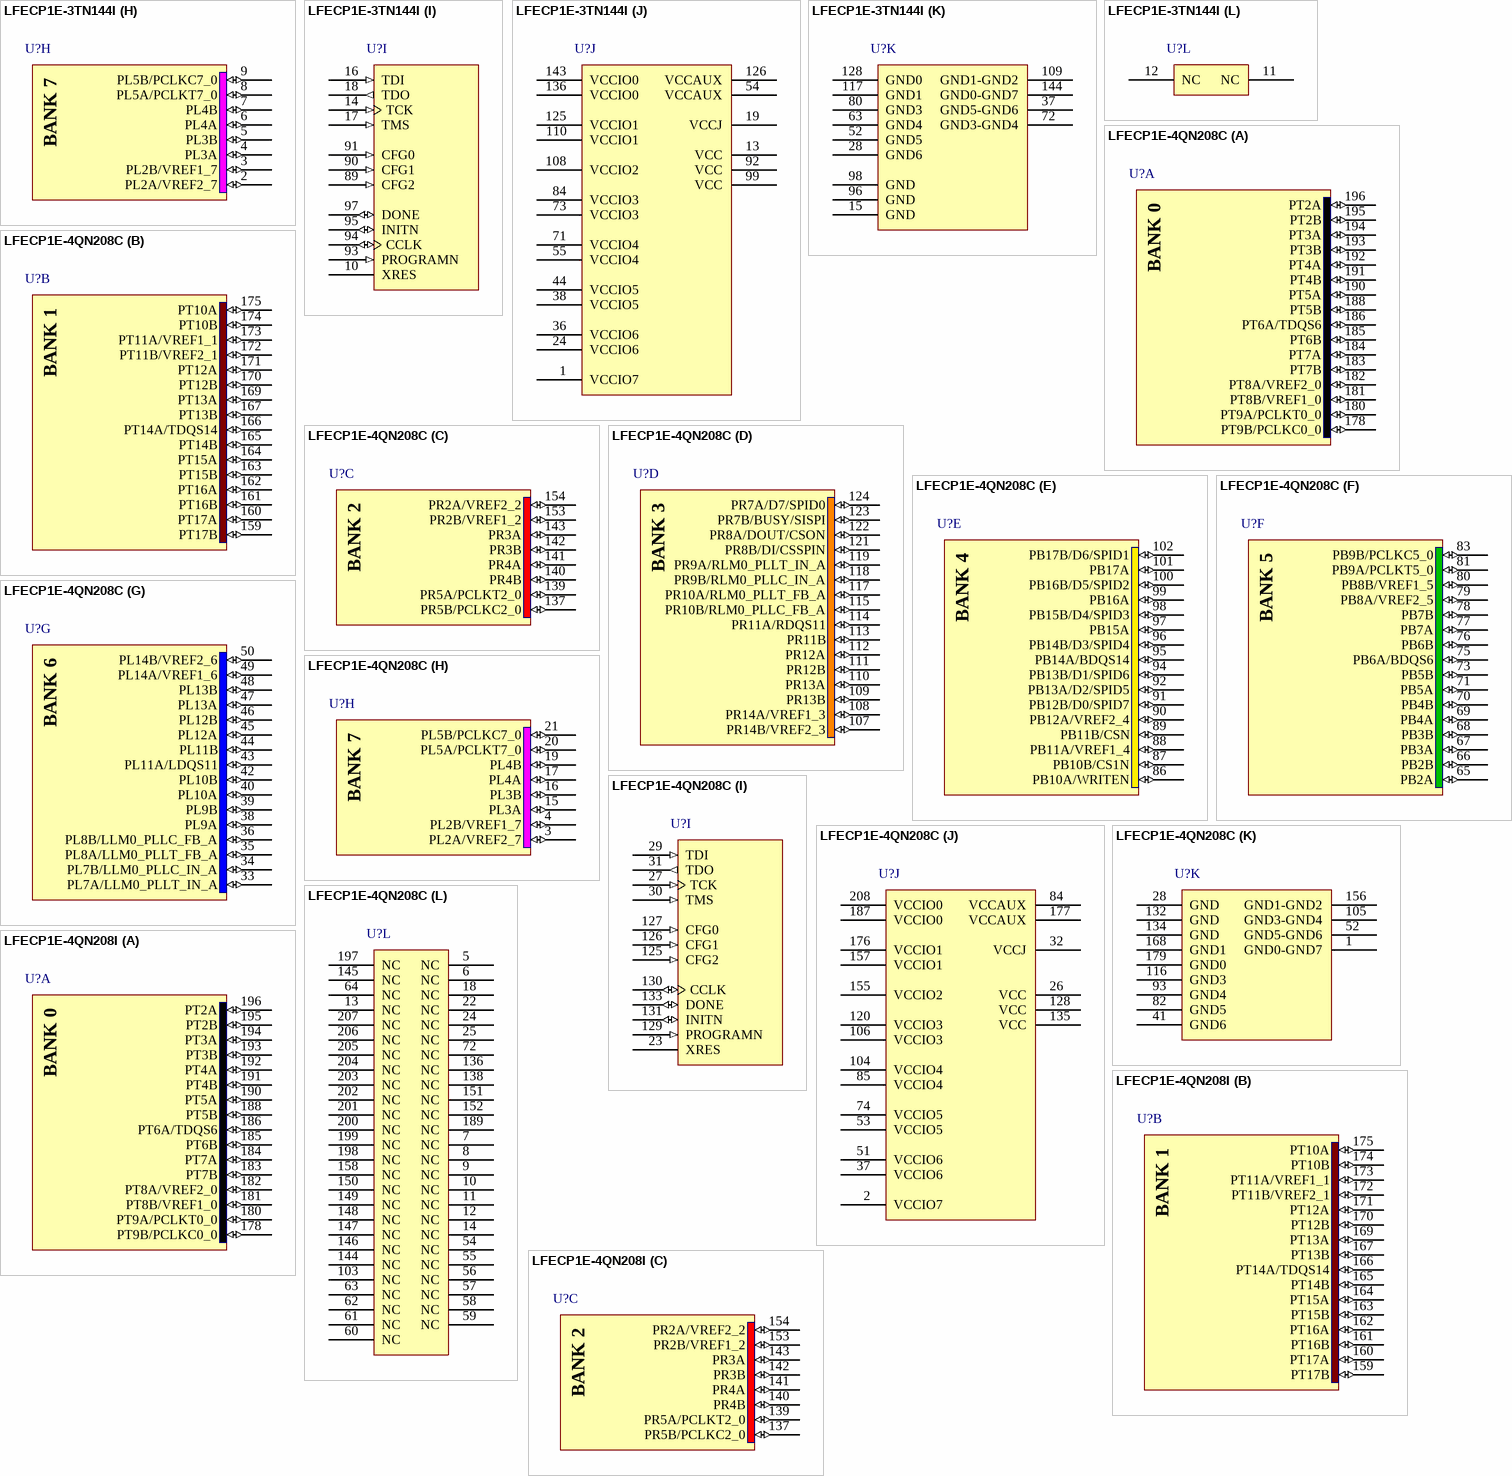
[diagram p3: symbols LFECP1E-3TN144I to LFECP1E-4QN208I]

## LFECP1E-3TN144I
designator U?
ECP 1.2V FPGA, 97 I/Os, 2 PLLs, 1.5K LUTs, 144-Pin TQFP, Pb-Free, Speed Grade 3, Industrial Temperature Grade; Note: Pins 37, 72, 109 and 144 are double bonded.; ComponentAvailability: Not Available; Published: 4-Mar-2005; LatestRevisionDate: 13-Apr-2006; LatestRevisionNote: IPC-7351 Footprint Added.; DatasheetVersion: Dec-2004; PackageVersion: pkg_33, Apr-2006; PackageReference: TQFP144; Publisher: Altium Limited; PackageDescription: 144-Pin Thin Quad Flat Pack (TQFP144); Code_JEDEC: MS-026-BFB; ComponentLink1Description: Manufacturer Link; ComponentLink1URL: http://www.latticesemi.com/products/fpga/ecpec/index.cfm; ComponentLink2Description: Datasheet; ComponentLink2URL: http://www.latticesemi.com/lit/docs/datasheets/fpga/ecp_ec_datasheet.pdf; ComponentLink3Description: Packaging Specification; ComponentLink3URL: http://www.latticesemi.com/lit/docs/package/pkg.pdf; ComponentLink4Description: Lattice Login; ComponentLink4URL: http://www.latticesemi.com/account/login.cfm
footprint TQFP144_N (Thin QFP, 144-Leads, Body 20x20mm, Pitch 0.5mm, IPC Medium Density)
footprint TQFP144_L (Thin QFP, 144-Leads, Body 20x20mm, Pitch 0.5mm, IPC High Density)
footprint TQFP144_M (Thin QFP, 144-Leads, Body 20x20mm, Pitch 0.5mm, IPC Low Density)
3D model ECP1E-TQFP-144 (144-Pin Thin Quad Flat Pack (TQFP144))
part A pins: 127 PT9B/PCLKC0_0 (io), 129 PT9A/PCLKT0_0 (io), 130 PT8B/VREF1_0 (io), 131 PT8A/VREF2_0 (io), 132 PT7B (io), 133 PT7A (io), 134 PT6B (io), 135 PT6A/TDQS6 (io), 137 PT5B (io), 138 PT5A (io), 139 PT4B (io), 140 PT4A (io), 141 PT2B (io), 142 PT2A (io)
part B pins: 111 PT17B (io), 112 PT17A (io), 113 PT15A (io), 114 PT14B (io), 115 PT14A/TDQS14 (io), 116 PT13B (io), 118 PT13A (io), 119 PT12B (io), 120 PT12A (io), 121 PT11B/VREF2_1 (io), 122 PT11A/VREF1_1 (io), 123 PT10B (io), 124 PT10A (io)
part C pins: 100 PR5B/PCLKC2_0 (io), 101 PR5A/PCLKT2_0 (io), 102 PR4B (io), 103 PR4A (io), 104 PR3B (io), 105 PR3A (io), 106 PR2B/VREF1_2 (io), 107 PR2A/VREF2_2 (io)
part D pins: 74 PR14A/VREF1_3 (io), 75 PR12B (io), 76 PR12A (io), 77 PR11B (io), 78 PR11A/RDQS11 (io), 79 PR10B/RLM0_PLLC_FB_A (io), 81 PR10A/RLM0_PLLT_FB_A (io), 82 PR9B/RLM0_PLLC_IN_A (io), 83 PR9A/RLM0_PLLT_IN_A (io), 85 PR8B/DI/CSSPIN (io), 86 PR8A/DOUT/CSON (io), 87 PR7B/BUSY/SISPI (io), 88 PR7A/D7/SPID0 (io)
part E pins: 56 PB10A/WRITEN (io), 57 PB10B/CS1N (io), 58 PB11A/VREF1_4 (io), 59 PB11B/CSN (io), 60 PB12A/VREF2_4 (io), 61 PB12B/D0/SPID7 (io), 62 PB13A/D2/SPID5 (io), 64 PB13B/D1/SPID6 (io), 65 PB14A/BDQS14 (io), 66 PB14B/D3/SPID4 (io), 67 PB15A (io), 68 PB15B/D4/SPID3 (io), 69 PB16B/D5/SPID2 (io), 70 PB17B/D6/SPID1 (io)
part F pins: 39 PB2A (io), 40 PB2B (io), 41 PB3A (io), 42 PB3B (io), 43 PB5B (io), 45 PB6A/BDQS6 (io), 46 PB6B (io), 47 PB7A (io), 48 PB7B (io), 49 PB8A/VREF2_5 (io), 50 PB8B/VREF1_5 (io), 51 PB9A/PCLKT5_0 (io), 53 PB9B/PCLKC5_0 (io)
part G pins: 20 PL7A/LLM0_PLLT_IN_A (io), 21 PL7B/LLM0_PLLC_IN_A (io), 22 PL8A/LLM0_PLLT_FB_A (io), 23 PL8B/LLM0_PLLC_FB_A (io), 25 PL9A (io), 26 PL9B (io), 27 PL10A (io), 29 PL10B (io), 30 PL11A/LDQS11 (io), 31 PL11B (io), 32 PL12A (io), 33 PL12B (io), 34 PL14A/VREF1_6 (io), 35 PL14B/VREF2_6 (io)
part H pins: 2 PL2A/VREF2_7 (io), 3 PL2B/VREF1_7 (io), 4 PL3A (io), 5 PL3B (io), 6 PL4A (io), 7 PL4B (io), 8 PL5A/PCLKT7_0 (io), 9 PL5B/PCLKC7_0 (io)
part I pins: 10 XRES, 14 TCK (in), 16 TDI (in), 17 TMS (in), 18 TDO (out), 89 CFG2 (in), 90 CFG1 (in), 91 CFG0 (in), 93 PROGRAMN (in), 94 CCLK (io), 95 INITN (io), 97 DONE (io)
part J pins: 1 VCCIO7 (power), 13 VCC (power), 19 VCCJ (power), 24 VCCIO6 (power), 36 VCCIO6 (power), 38 VCCIO5 (power), 44 VCCIO5 (power), 54 VCCAUX (power), 55 VCCIO4 (power), 71 VCCIO4 (power), 73 VCCIO3 (power), 84 VCCIO3 (power), 92 VCC (power), 99 VCC (power), 108 VCCIO2 (power), 110 VCCIO1 (power), 125 VCCIO1 (power), 126 VCCAUX (power), 136 VCCIO0 (power), 143 VCCIO0 (power)
part K pins: 15 GND (power), 28 GND6 (power), 37 GND5-GND6 (power), 52 GND5 (power), 63 GND4 (power), 72 GND3-GND4 (power), 80 GND3 (power), 96 GND (power), 98 GND (power), 109 GND1-GND2 (power), 117 GND1 (power), 128 GND0 (power), 144 GND0-GND7 (power)
part L pins: 11 NC, 12 NC
part A text: BANK 0
part B text: BANK 1
part C text: BANK 2
part D text: BANK 3
part E text: BANK 4
part F text: BANK 5
part G text: BANK 6
part H text: BANK 7

## LFECP1E-4QN208C
designator U?
ECP 1.2V FPGA, 112 I/Os, 2 PLLs, 1.5K LUTs, 208-Pin PQFP, Pb-Free, Speed Grade 4, Commercial Temperature Grade; Note: Pins 1, 52, 105 and 156 are double bonded.; ComponentAvailability: Not Available; Published: 4-Mar-2005; LatestRevisionDate: 13-Apr-2006; LatestRevisionNote: IPC-7351 Footprint Added.; DatasheetVersion: Dec-2004; PackageVersion: pkg_33, Apr-2006; PackageReference: PQFP208; Publisher: Altium Limited; PackageDescription: 208-Pin Plastic Quad Flat Pack (PQFP208); Code_JEDEC: MO-143-FAI; ComponentLink1Description: Manufacturer Link; ComponentLink1URL: http://www.latticesemi.com/products/fpga/ecpec/index.cfm; ComponentLink2Description: Datasheet; ComponentLink2URL: http://www.latticesemi.com/lit/docs/datasheets/fpga/ecp_ec_datasheet.pdf; ComponentLink3Description: Packaging Specification; ComponentLink3URL: http://www.latticesemi.com/lit/docs/package/pkg.pdf; ComponentLink4Description: Lattice Login; ComponentLink4URL: http://www.latticesemi.com/account/login.cfm
footprint PQFP208_N (Shrink QFP, 208-Leads, Body 28x28mm, Pitch 0.5mm, IPC Medium Density)
footprint PQFP208_L (Shrink QFP, 208-Leads, Body 28x28mm, Pitch 0.5mm, IPC High Density)
footprint PQFP208_M (Shrink QFP, 208-Leads, Body 28x28mm, Pitch 0.5mm, IPC Low Density)
3D model ECP1E-PQFP-208 (208-Pin Plastic Quad Flat Pack (PQFP208))
part A pins: 178 PT9B/PCLKC0_0 (io), 180 PT9A/PCLKT0_0 (io), 181 PT8B/VREF1_0 (io), 182 PT8A/VREF2_0 (io), 183 PT7B (io), 184 PT7A (io), 185 PT6B (io), 186 PT6A/TDQS6 (io), 188 PT5B (io), 190 PT5A (io), 191 PT4B (io), 192 PT4A (io), 193 PT3B (io), 194 PT3A (io), 195 PT2B (io), 196 PT2A (io)
part B pins: 159 PT17B (io), 160 PT17A (io), 161 PT16B (io), 162 PT16A (io), 163 PT15B (io), 164 PT15A (io), 165 PT14B (io), 166 PT14A/TDQS14 (io), 167 PT13B (io), 169 PT13A (io), 170 PT12B (io), 171 PT12A (io), 172 PT11B/VREF2_1 (io), 173 PT11A/VREF1_1 (io), 174 PT10B (io), 175 PT10A (io)
part C pins: 137 PR5B/PCLKC2_0 (io), 139 PR5A/PCLKT2_0 (io), 140 PR4B (io), 141 PR4A (io), 142 PR3B (io), 143 PR3A (io), 153 PR2B/VREF1_2 (io), 154 PR2A/VREF2_2 (io)
part D pins: 107 PR14B/VREF2_3 (io), 108 PR14A/VREF1_3 (io), 109 PR13B (io), 110 PR13A (io), 111 PR12B (io), 112 PR12A (io), 113 PR11B (io), 114 PR11A/RDQS11 (io), 115 PR10B/RLM0_PLLC_FB_A (io), 117 PR10A/RLM0_PLLT_FB_A (io), 118 PR9B/RLM0_PLLC_IN_A (io), 119 PR9A/RLM0_PLLT_IN_A (io), 121 PR8B/DI/CSSPIN (io), 122 PR8A/DOUT/CSON (io), 123 PR7B/BUSY/SISPI (io), 124 PR7A/D7/SPID0 (io)
part E pins: 86 PB10A/WRITEN (io), 87 PB10B/CS1N (io), 88 PB11A/VREF1_4 (io), 89 PB11B/CSN (io), 90 PB12A/VREF2_4 (io), 91 PB12B/D0/SPID7 (io), 92 PB13A/D2/SPID5 (io), 94 PB13B/D1/SPID6 (io), 95 PB14A/BDQS14 (io), 96 PB14B/D3/SPID4 (io), 97 PB15A (io), 98 PB15B/D4/SPID3 (io), 99 PB16A (io), 100 PB16B/D5/SPID2 (io), 101 PB17A (io), 102 PB17B/D6/SPID1 (io)
part F pins: 65 PB2A (io), 66 PB2B (io), 67 PB3A (io), 68 PB3B (io), 69 PB4A (io), 70 PB4B (io), 71 PB5A (io), 73 PB5B (io), 75 PB6A/BDQS6 (io), 76 PB6B (io), 77 PB7A (io), 78 PB7B (io), 79 PB8A/VREF2_5 (io), 80 PB8B/VREF1_5 (io), 81 PB9A/PCLKT5_0 (io), 83 PB9B/PCLKC5_0 (io)
part G pins: 33 PL7A/LLM0_PLLT_IN_A (io), 34 PL7B/LLM0_PLLC_IN_A (io), 35 PL8A/LLM0_PLLT_FB_A (io), 36 PL8B/LLM0_PLLC_FB_A (io), 38 PL9A (io), 39 PL9B (io), 40 PL10A (io), 42 PL10B (io), 43 PL11A/LDQS11 (io), 44 PL11B (io), 45 PL12A (io), 46 PL12B (io), 47 PL13A (io), 48 PL13B (io), 49 PL14A/VREF1_6 (io), 50 PL14B/VREF2_6 (io)
part H pins: 3 PL2A/VREF2_7 (io), 4 PL2B/VREF1_7 (io), 15 PL3A (io), 16 PL3B (io), 17 PL4A (io), 19 PL4B (io), 20 PL5A/PCLKT7_0 (io), 21 PL5B/PCLKC7_0 (io)
part I pins: 23 XRES, 27 TCK (in), 29 TDI (in), 30 TMS (in), 31 TDO (out), 125 CFG2 (in), 126 CFG1 (in), 127 CFG0 (in), 129 PROGRAMN (in), 130 CCLK (io), 131 INITN (io), 133 DONE (io)
part J pins: 2 VCCIO7 (power), 26 VCC (power), 32 VCCJ (power), 37 VCCIO6 (power), 51 VCCIO6 (power), 53 VCCIO5 (power), 74 VCCIO5 (power), 84 VCCAUX (power), 85 VCCIO4 (power), 104 VCCIO4 (power), 106 VCCIO3 (power), 120 VCCIO3 (power), 128 VCC (power), 135 VCC (power), 155 VCCIO2 (power), 157 VCCIO1 (power), 176 VCCIO1 (power), 177 VCCAUX (power), 187 VCCIO0 (power), 208 VCCIO0 (power)
part K pins: 1 GND0-GND7 (power), 28 GND (power), 41 GND6 (power), 52 GND5-GND6 (power), 82 GND5 (power), 93 GND4 (power), 105 GND3-GND4 (power), 116 GND3 (power), 132 GND (power), 134 GND (power), 156 GND1-GND2 (power), 168 GND1 (power), 179 GND0 (power)
part L pins: 5 NC, 6 NC, 7 NC, 8 NC, 9 NC, 10 NC, 11 NC, 12 NC, 13 NC, 14 NC, 18 NC, 22 NC, 24 NC, 25 NC, 54 NC, 55 NC, 56 NC, 57 NC, 58 NC, 59 NC, 60 NC, 61 NC, 62 NC, 63 NC, 64 NC, 72 NC, 103 NC, 136 NC, 138 NC, 144 NC, 145 NC, 146 NC, 147 NC, 148 NC, 149 NC, 150 NC, 151 NC, 152 NC, 158 NC, 189 NC, 197 NC, 198 NC, 199 NC, 200 NC, 201 NC, 202 NC, 203 NC, 204 NC, 205 NC, 206 NC, 207 NC
part A text: BANK 0
part B text: BANK 1
part C text: BANK 2
part D text: BANK 3
part E text: BANK 4
part F text: BANK 5
part G text: BANK 6
part H text: BANK 7

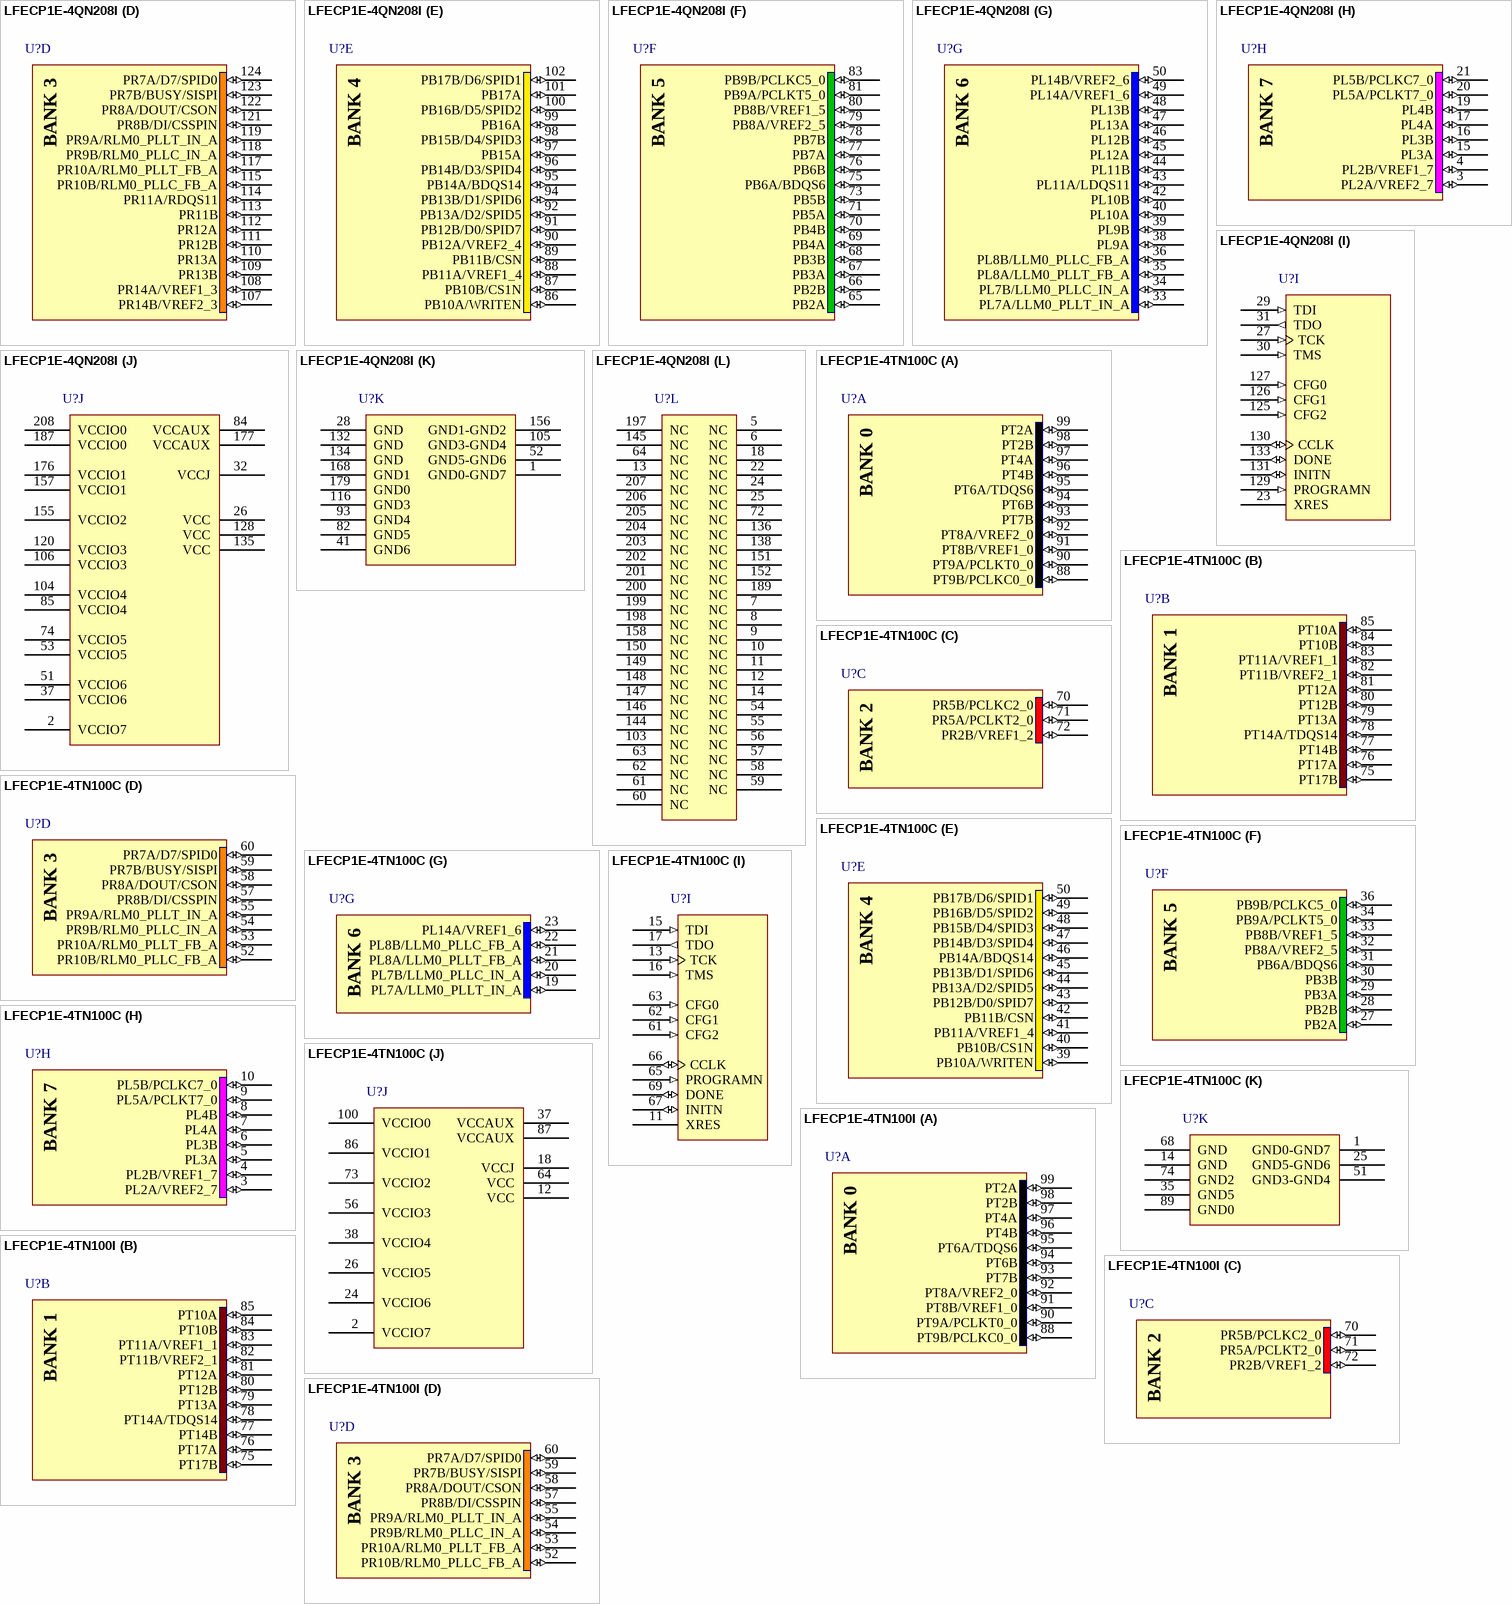
[diagram p4: symbols LFECP1E-4QN208I to LFECP1E-4TN100I]

## LFECP1E-4QN208I
designator U?
ECP 1.2V FPGA, 112 I/Os, 2 PLLs, 1.5K LUTs, 208-Pin PQFP, Pb-Free, Speed Grade 4, Industrial Temperature Grade; Note: Pins 1, 52, 105 and 156 are double bonded.; ComponentAvailability: Not Available; Published: 4-Mar-2005; LatestRevisionDate: 13-Apr-2006; LatestRevisionNote: IPC-7351 Footprint Added.; DatasheetVersion: Dec-2004; PackageVersion: pkg_33, Apr-2006; PackageReference: PQFP208; Publisher: Altium Limited; PackageDescription: 208-Pin Plastic Quad Flat Pack (PQFP208); Code_JEDEC: MO-143-FAI; ComponentLink1Description: Manufacturer Link; ComponentLink1URL: http://www.latticesemi.com/products/fpga/ecpec/index.cfm; ComponentLink2Description: Datasheet; ComponentLink2URL: http://www.latticesemi.com/lit/docs/datasheets/fpga/ecp_ec_datasheet.pdf; ComponentLink3Description: Packaging Specification; ComponentLink3URL: http://www.latticesemi.com/lit/docs/package/pkg.pdf; ComponentLink4Description: Lattice Login; ComponentLink4URL: http://www.latticesemi.com/account/login.cfm
footprint PQFP208_N (Shrink QFP, 208-Leads, Body 28x28mm, Pitch 0.5mm, IPC Medium Density)
footprint PQFP208_L (Shrink QFP, 208-Leads, Body 28x28mm, Pitch 0.5mm, IPC High Density)
footprint PQFP208_M (Shrink QFP, 208-Leads, Body 28x28mm, Pitch 0.5mm, IPC Low Density)
3D model ECP1E-PQFP-208 (208-Pin Plastic Quad Flat Pack (PQFP208))
part A pins: 178 PT9B/PCLKC0_0 (io), 180 PT9A/PCLKT0_0 (io), 181 PT8B/VREF1_0 (io), 182 PT8A/VREF2_0 (io), 183 PT7B (io), 184 PT7A (io), 185 PT6B (io), 186 PT6A/TDQS6 (io), 188 PT5B (io), 190 PT5A (io), 191 PT4B (io), 192 PT4A (io), 193 PT3B (io), 194 PT3A (io), 195 PT2B (io), 196 PT2A (io)
part B pins: 159 PT17B (io), 160 PT17A (io), 161 PT16B (io), 162 PT16A (io), 163 PT15B (io), 164 PT15A (io), 165 PT14B (io), 166 PT14A/TDQS14 (io), 167 PT13B (io), 169 PT13A (io), 170 PT12B (io), 171 PT12A (io), 172 PT11B/VREF2_1 (io), 173 PT11A/VREF1_1 (io), 174 PT10B (io), 175 PT10A (io)
part C pins: 137 PR5B/PCLKC2_0 (io), 139 PR5A/PCLKT2_0 (io), 140 PR4B (io), 141 PR4A (io), 142 PR3B (io), 143 PR3A (io), 153 PR2B/VREF1_2 (io), 154 PR2A/VREF2_2 (io)
part D pins: 107 PR14B/VREF2_3 (io), 108 PR14A/VREF1_3 (io), 109 PR13B (io), 110 PR13A (io), 111 PR12B (io), 112 PR12A (io), 113 PR11B (io), 114 PR11A/RDQS11 (io), 115 PR10B/RLM0_PLLC_FB_A (io), 117 PR10A/RLM0_PLLT_FB_A (io), 118 PR9B/RLM0_PLLC_IN_A (io), 119 PR9A/RLM0_PLLT_IN_A (io), 121 PR8B/DI/CSSPIN (io), 122 PR8A/DOUT/CSON (io), 123 PR7B/BUSY/SISPI (io), 124 PR7A/D7/SPID0 (io)
part E pins: 86 PB10A/WRITEN (io), 87 PB10B/CS1N (io), 88 PB11A/VREF1_4 (io), 89 PB11B/CSN (io), 90 PB12A/VREF2_4 (io), 91 PB12B/D0/SPID7 (io), 92 PB13A/D2/SPID5 (io), 94 PB13B/D1/SPID6 (io), 95 PB14A/BDQS14 (io), 96 PB14B/D3/SPID4 (io), 97 PB15A (io), 98 PB15B/D4/SPID3 (io), 99 PB16A (io), 100 PB16B/D5/SPID2 (io), 101 PB17A (io), 102 PB17B/D6/SPID1 (io)
part F pins: 65 PB2A (io), 66 PB2B (io), 67 PB3A (io), 68 PB3B (io), 69 PB4A (io), 70 PB4B (io), 71 PB5A (io), 73 PB5B (io), 75 PB6A/BDQS6 (io), 76 PB6B (io), 77 PB7A (io), 78 PB7B (io), 79 PB8A/VREF2_5 (io), 80 PB8B/VREF1_5 (io), 81 PB9A/PCLKT5_0 (io), 83 PB9B/PCLKC5_0 (io)
part G pins: 33 PL7A/LLM0_PLLT_IN_A (io), 34 PL7B/LLM0_PLLC_IN_A (io), 35 PL8A/LLM0_PLLT_FB_A (io), 36 PL8B/LLM0_PLLC_FB_A (io), 38 PL9A (io), 39 PL9B (io), 40 PL10A (io), 42 PL10B (io), 43 PL11A/LDQS11 (io), 44 PL11B (io), 45 PL12A (io), 46 PL12B (io), 47 PL13A (io), 48 PL13B (io), 49 PL14A/VREF1_6 (io), 50 PL14B/VREF2_6 (io)
part H pins: 3 PL2A/VREF2_7 (io), 4 PL2B/VREF1_7 (io), 15 PL3A (io), 16 PL3B (io), 17 PL4A (io), 19 PL4B (io), 20 PL5A/PCLKT7_0 (io), 21 PL5B/PCLKC7_0 (io)
part I pins: 23 XRES, 27 TCK (in), 29 TDI (in), 30 TMS (in), 31 TDO (out), 125 CFG2 (in), 126 CFG1 (in), 127 CFG0 (in), 129 PROGRAMN (in), 130 CCLK (io), 131 INITN (io), 133 DONE (io)
part J pins: 2 VCCIO7 (power), 26 VCC (power), 32 VCCJ (power), 37 VCCIO6 (power), 51 VCCIO6 (power), 53 VCCIO5 (power), 74 VCCIO5 (power), 84 VCCAUX (power), 85 VCCIO4 (power), 104 VCCIO4 (power), 106 VCCIO3 (power), 120 VCCIO3 (power), 128 VCC (power), 135 VCC (power), 155 VCCIO2 (power), 157 VCCIO1 (power), 176 VCCIO1 (power), 177 VCCAUX (power), 187 VCCIO0 (power), 208 VCCIO0 (power)
part K pins: 1 GND0-GND7 (power), 28 GND (power), 41 GND6 (power), 52 GND5-GND6 (power), 82 GND5 (power), 93 GND4 (power), 105 GND3-GND4 (power), 116 GND3 (power), 132 GND (power), 134 GND (power), 156 GND1-GND2 (power), 168 GND1 (power), 179 GND0 (power)
part L pins: 5 NC, 6 NC, 7 NC, 8 NC, 9 NC, 10 NC, 11 NC, 12 NC, 13 NC, 14 NC, 18 NC, 22 NC, 24 NC, 25 NC, 54 NC, 55 NC, 56 NC, 57 NC, 58 NC, 59 NC, 60 NC, 61 NC, 62 NC, 63 NC, 64 NC, 72 NC, 103 NC, 136 NC, 138 NC, 144 NC, 145 NC, 146 NC, 147 NC, 148 NC, 149 NC, 150 NC, 151 NC, 152 NC, 158 NC, 189 NC, 197 NC, 198 NC, 199 NC, 200 NC, 201 NC, 202 NC, 203 NC, 204 NC, 205 NC, 206 NC, 207 NC
part A text: BANK 0
part B text: BANK 1
part C text: BANK 2
part D text: BANK 3
part E text: BANK 4
part F text: BANK 5
part G text: BANK 6
part H text: BANK 7

## LFECP1E-4TN100C
designator U?
ECP 1.2V FPGA, 67 I/Os, 2 PLLs, 1.5K LUTs, 100-Pin TQFP, Pb-Free, Speed Grade 4, Commercial Temperature Grade; Note: Pins 1, 25 and 51 are double bonded.; ComponentAvailability: Not Available; Published: 4-Mar-2005; LatestRevisionDate: 13-Apr-2006; LatestRevisionNote: IPC-7351 Footprint Added.; DatasheetVersion: Dec-2004; PackageVersion: pkg_33, Apr-2006; PackageReference: TQFP100; Publisher: Altium Limited; PackageDescription: 100-Pin Thin Quad Flat Pack (TQFP100); Code_JEDEC: MS-026-BED; ComponentLink1Description: Manufacturer Link; ComponentLink1URL: http://www.latticesemi.com/products/fpga/ecpec/index.cfm; ComponentLink2Description: Datasheet; ComponentLink2URL: http://www.latticesemi.com/lit/docs/datasheets/fpga/ecp_ec_datasheet.pdf; ComponentLink3Description: Packaging Specification; ComponentLink3URL: http://www.latticesemi.com/lit/docs/package/pkg.pdf; ComponentLink4Description: Lattice Login; ComponentLink4URL: http://www.latticesemi.com/account/login.cfm
footprint TQFP100_N (Thin QFP, 100-Leads, Body 14x14mm, Pitch 0.5mm, IPC Medium Density)
footprint TQFP100_L (Thin QFP, 100-Leads, Body 14x14mm, Pitch 0.5mm, IPC High Density)
footprint TQFP100_M (Thin QFP, 100-Leads, Body 14x14mm, Pitch 0.5mm, IPC Low Density)
3D model ECP1E-TQFP-100 (100-Pin Thin Quad Flat Pack (TQFP100))
part A pins: 88 PT9B/PCLKC0_0 (io), 90 PT9A/PCLKT0_0 (io), 91 PT8B/VREF1_0 (io), 92 PT8A/VREF2_0 (io), 93 PT7B (io), 94 PT6B (io), 95 PT6A/TDQS6 (io), 96 PT4B (io), 97 PT4A (io), 98 PT2B (io), 99 PT2A (io)
part B pins: 75 PT17B (io), 76 PT17A (io), 77 PT14B (io), 78 PT14A/TDQS14 (io), 79 PT13A (io), 80 PT12B (io), 81 PT12A (io), 82 PT11B/VREF2_1 (io), 83 PT11A/VREF1_1 (io), 84 PT10B (io), 85 PT10A (io)
part C pins: 70 PR5B/PCLKC2_0 (io), 71 PR5A/PCLKT2_0 (io), 72 PR2B/VREF1_2 (io)
part D pins: 52 PR10B/RLM0_PLLC_FB_A (io), 53 PR10A/RLM0_PLLT_FB_A (io), 54 PR9B/RLM0_PLLC_IN_A (io), 55 PR9A/RLM0_PLLT_IN_A (io), 57 PR8B/DI/CSSPIN (io), 58 PR8A/DOUT/CSON (io), 59 PR7B/BUSY/SISPI (io), 60 PR7A/D7/SPID0 (io)
part E pins: 39 PB10A/WRITEN (io), 40 PB10B/CS1N (io), 41 PB11A/VREF1_4 (io), 42 PB11B/CSN (io), 43 PB12B/D0/SPID7 (io), 44 PB13A/D2/SPID5 (io), 45 PB13B/D1/SPID6 (io), 46 PB14A/BDQS14 (io), 47 PB14B/D3/SPID4 (io), 48 PB15B/D4/SPID3 (io), 49 PB16B/D5/SPID2 (io), 50 PB17B/D6/SPID1 (io)
part F pins: 27 PB2A (io), 28 PB2B (io), 29 PB3A (io), 30 PB3B (io), 31 PB6A/BDQS6 (io), 32 PB8A/VREF2_5 (io), 33 PB8B/VREF1_5 (io), 34 PB9A/PCLKT5_0 (io), 36 PB9B/PCLKC5_0 (io)
part G pins: 19 PL7A/LLM0_PLLT_IN_A (io), 20 PL7B/LLM0_PLLC_IN_A (io), 21 PL8A/LLM0_PLLT_FB_A (io), 22 PL8B/LLM0_PLLC_FB_A (io), 23 PL14A/VREF1_6 (io)
part H pins: 3 PL2A/VREF2_7 (io), 4 PL2B/VREF1_7 (io), 5 PL3A (io), 6 PL3B (io), 7 PL4A (io), 8 PL4B (io), 9 PL5A/PCLKT7_0 (io), 10 PL5B/PCLKC7_0 (io)
part I pins: 11 XRES, 13 TCK (in), 15 TDI (in), 16 TMS (in), 17 TDO (out), 61 CFG2 (in), 62 CFG1 (in), 63 CFG0 (in), 65 PROGRAMN (in), 66 CCLK (io), 67 INITN (io), 69 DONE (io)
part J pins: 2 VCCIO7 (power), 12 VCC (power), 18 VCCJ (power), 24 VCCIO6 (power), 26 VCCIO5 (power), 37 VCCAUX (power), 38 VCCIO4 (power), 56 VCCIO3 (power), 64 VCC (power), 73 VCCIO2 (power), 86 VCCIO1 (power), 87 VCCAUX (power), 100 VCCIO0 (power)
part K pins: 1 GND0-GND7 (power), 14 GND (power), 25 GND5-GND6 (power), 35 GND5 (power), 51 GND3-GND4 (power), 68 GND (power), 74 GND2 (power), 89 GND0 (power)
part A text: BANK 0
part B text: BANK 1
part C text: BANK 2
part D text: BANK 3
part E text: BANK 4
part F text: BANK 5
part G text: BANK 6
part H text: BANK 7

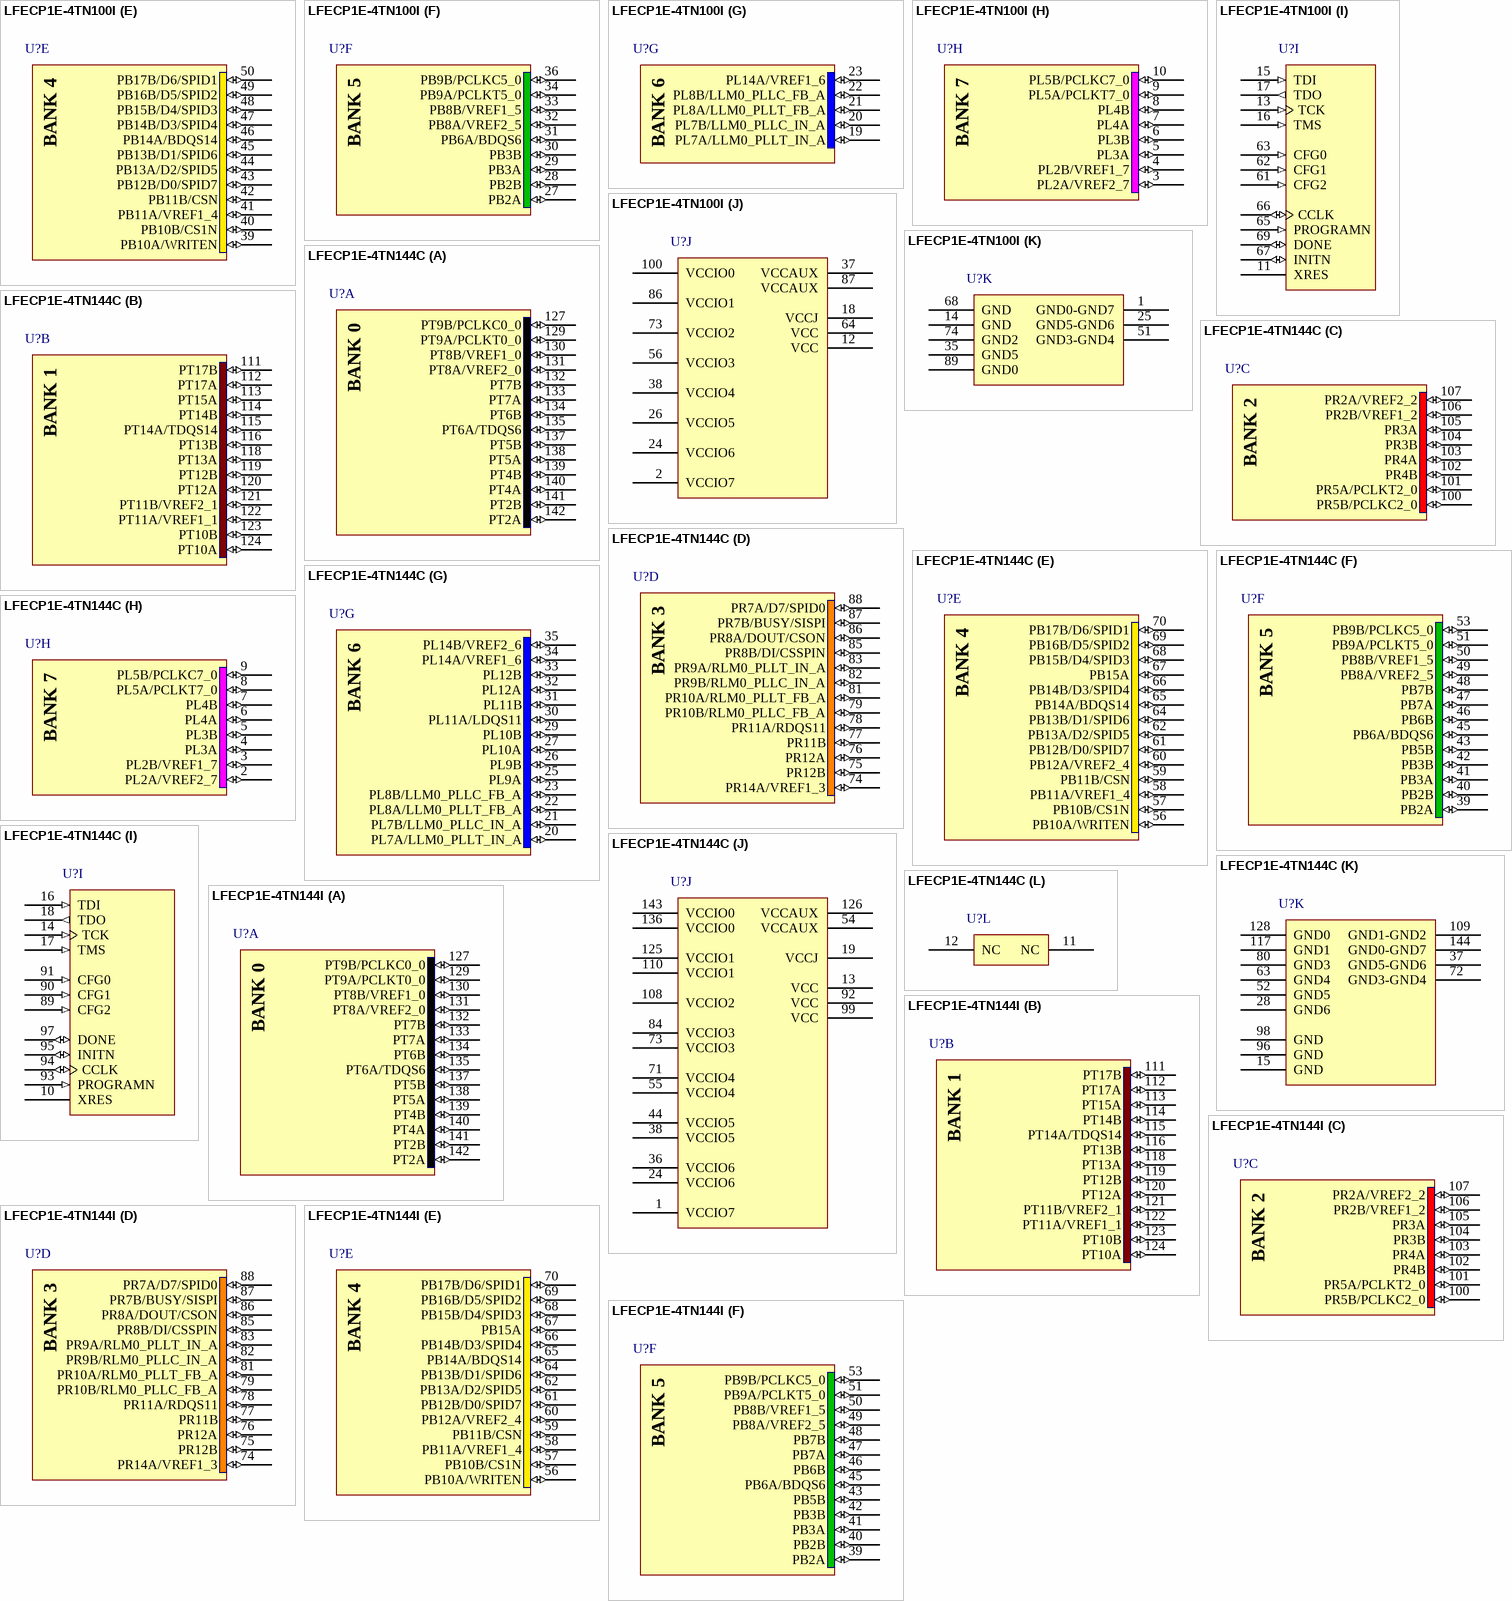
[diagram p5: symbols LFECP1E-4TN100I to LFECP1E-4TN144I]

## LFECP1E-4TN100I
designator U?
ECP 1.2V FPGA, 67 I/Os, 2 PLLs, 1.5K LUTs, 100-Pin TQFP, Pb-Free, Speed Grade 4, Industrial Temperature Grade; Note: Pins 1, 25 and 51 are double bonded.; ComponentAvailability: Not Available; Published: 4-Mar-2005; LatestRevisionDate: 13-Apr-2006; LatestRevisionNote: IPC-7351 Footprint Added.; DatasheetVersion: Dec-2004; PackageVersion: pkg_33, Apr-2006; PackageReference: TQFP100; Publisher: Altium Limited; PackageDescription: 100-Pin Thin Quad Flat Pack (TQFP100); Code_JEDEC: MS-026-BED; ComponentLink1Description: Manufacturer Link; ComponentLink1URL: http://www.latticesemi.com/products/fpga/ecpec/index.cfm; ComponentLink2Description: Datasheet; ComponentLink2URL: http://www.latticesemi.com/lit/docs/datasheets/fpga/ecp_ec_datasheet.pdf; ComponentLink3Description: Packaging Specification; ComponentLink3URL: http://www.latticesemi.com/lit/docs/package/pkg.pdf; ComponentLink4Description: Lattice Login; ComponentLink4URL: http://www.latticesemi.com/account/login.cfm
footprint TQFP100_N (Thin QFP, 100-Leads, Body 14x14mm, Pitch 0.5mm, IPC Medium Density)
footprint TQFP100_L (Thin QFP, 100-Leads, Body 14x14mm, Pitch 0.5mm, IPC High Density)
footprint TQFP100_M (Thin QFP, 100-Leads, Body 14x14mm, Pitch 0.5mm, IPC Low Density)
3D model ECP1E-TQFP-100 (100-Pin Thin Quad Flat Pack (TQFP100))
part A pins: 88 PT9B/PCLKC0_0 (io), 90 PT9A/PCLKT0_0 (io), 91 PT8B/VREF1_0 (io), 92 PT8A/VREF2_0 (io), 93 PT7B (io), 94 PT6B (io), 95 PT6A/TDQS6 (io), 96 PT4B (io), 97 PT4A (io), 98 PT2B (io), 99 PT2A (io)
part B pins: 75 PT17B (io), 76 PT17A (io), 77 PT14B (io), 78 PT14A/TDQS14 (io), 79 PT13A (io), 80 PT12B (io), 81 PT12A (io), 82 PT11B/VREF2_1 (io), 83 PT11A/VREF1_1 (io), 84 PT10B (io), 85 PT10A (io)
part C pins: 70 PR5B/PCLKC2_0 (io), 71 PR5A/PCLKT2_0 (io), 72 PR2B/VREF1_2 (io)
part D pins: 52 PR10B/RLM0_PLLC_FB_A (io), 53 PR10A/RLM0_PLLT_FB_A (io), 54 PR9B/RLM0_PLLC_IN_A (io), 55 PR9A/RLM0_PLLT_IN_A (io), 57 PR8B/DI/CSSPIN (io), 58 PR8A/DOUT/CSON (io), 59 PR7B/BUSY/SISPI (io), 60 PR7A/D7/SPID0 (io)
part E pins: 39 PB10A/WRITEN (io), 40 PB10B/CS1N (io), 41 PB11A/VREF1_4 (io), 42 PB11B/CSN (io), 43 PB12B/D0/SPID7 (io), 44 PB13A/D2/SPID5 (io), 45 PB13B/D1/SPID6 (io), 46 PB14A/BDQS14 (io), 47 PB14B/D3/SPID4 (io), 48 PB15B/D4/SPID3 (io), 49 PB16B/D5/SPID2 (io), 50 PB17B/D6/SPID1 (io)
part F pins: 27 PB2A (io), 28 PB2B (io), 29 PB3A (io), 30 PB3B (io), 31 PB6A/BDQS6 (io), 32 PB8A/VREF2_5 (io), 33 PB8B/VREF1_5 (io), 34 PB9A/PCLKT5_0 (io), 36 PB9B/PCLKC5_0 (io)
part G pins: 19 PL7A/LLM0_PLLT_IN_A (io), 20 PL7B/LLM0_PLLC_IN_A (io), 21 PL8A/LLM0_PLLT_FB_A (io), 22 PL8B/LLM0_PLLC_FB_A (io), 23 PL14A/VREF1_6 (io)
part H pins: 3 PL2A/VREF2_7 (io), 4 PL2B/VREF1_7 (io), 5 PL3A (io), 6 PL3B (io), 7 PL4A (io), 8 PL4B (io), 9 PL5A/PCLKT7_0 (io), 10 PL5B/PCLKC7_0 (io)
part I pins: 11 XRES, 13 TCK (in), 15 TDI (in), 16 TMS (in), 17 TDO (out), 61 CFG2 (in), 62 CFG1 (in), 63 CFG0 (in), 65 PROGRAMN (in), 66 CCLK (io), 67 INITN (io), 69 DONE (io)
part J pins: 2 VCCIO7 (power), 12 VCC (power), 18 VCCJ (power), 24 VCCIO6 (power), 26 VCCIO5 (power), 37 VCCAUX (power), 38 VCCIO4 (power), 56 VCCIO3 (power), 64 VCC (power), 73 VCCIO2 (power), 86 VCCIO1 (power), 87 VCCAUX (power), 100 VCCIO0 (power)
part K pins: 1 GND0-GND7 (power), 14 GND (power), 25 GND5-GND6 (power), 35 GND5 (power), 51 GND3-GND4 (power), 68 GND (power), 74 GND2 (power), 89 GND0 (power)
part A text: BANK 0
part B text: BANK 1
part C text: BANK 2
part D text: BANK 3
part E text: BANK 4
part F text: BANK 5
part G text: BANK 6
part H text: BANK 7

## LFECP1E-4TN144C
designator U?
ECP 1.2V FPGA, 97 I/Os, 2 PLLs, 1.5K LUTs, 144-Pin TQFP, Pb-Free, Speed Grade 4, Commercial Temperature Grade; Note: Pins 37, 72, 109 and 144 are double bonded.; ComponentAvailability: Not Available; Published: 4-Mar-2005; LatestRevisionDate: 13-Apr-2006; LatestRevisionNote: IPC-7351 Footprint Added.; DatasheetVersion: Dec-2004; PackageVersion: pkg_33, Apr-2006; PackageReference: TQFP144; Publisher: Altium Limited; PackageDescription: 144-Pin Thin Quad Flat Pack (TQFP144); Code_JEDEC: MS-026-BFB; ComponentLink1Description: Manufacturer Link; ComponentLink1URL: http://www.latticesemi.com/products/fpga/ecpec/index.cfm; ComponentLink2Description: Datasheet; ComponentLink2URL: http://www.latticesemi.com/lit/docs/datasheets/fpga/ecp_ec_datasheet.pdf; ComponentLink3Description: Packaging Specification; ComponentLink3URL: http://www.latticesemi.com/lit/docs/package/pkg.pdf; ComponentLink4Description: Lattice Login; ComponentLink4URL: http://www.latticesemi.com/account/login.cfm
footprint TQFP144_N (Thin QFP, 144-Leads, Body 20x20mm, Pitch 0.5mm, IPC Medium Density)
footprint TQFP144_L (Thin QFP, 144-Leads, Body 20x20mm, Pitch 0.5mm, IPC High Density)
footprint TQFP144_M (Thin QFP, 144-Leads, Body 20x20mm, Pitch 0.5mm, IPC Low Density)
3D model ECP1E-TQFP-144 (144-Pin Thin Quad Flat Pack (TQFP144))
part A pins: 127 PT9B/PCLKC0_0 (io), 129 PT9A/PCLKT0_0 (io), 130 PT8B/VREF1_0 (io), 131 PT8A/VREF2_0 (io), 132 PT7B (io), 133 PT7A (io), 134 PT6B (io), 135 PT6A/TDQS6 (io), 137 PT5B (io), 138 PT5A (io), 139 PT4B (io), 140 PT4A (io), 141 PT2B (io), 142 PT2A (io)
part B pins: 111 PT17B (io), 112 PT17A (io), 113 PT15A (io), 114 PT14B (io), 115 PT14A/TDQS14 (io), 116 PT13B (io), 118 PT13A (io), 119 PT12B (io), 120 PT12A (io), 121 PT11B/VREF2_1 (io), 122 PT11A/VREF1_1 (io), 123 PT10B (io), 124 PT10A (io)
part C pins: 100 PR5B/PCLKC2_0 (io), 101 PR5A/PCLKT2_0 (io), 102 PR4B (io), 103 PR4A (io), 104 PR3B (io), 105 PR3A (io), 106 PR2B/VREF1_2 (io), 107 PR2A/VREF2_2 (io)
part D pins: 74 PR14A/VREF1_3 (io), 75 PR12B (io), 76 PR12A (io), 77 PR11B (io), 78 PR11A/RDQS11 (io), 79 PR10B/RLM0_PLLC_FB_A (io), 81 PR10A/RLM0_PLLT_FB_A (io), 82 PR9B/RLM0_PLLC_IN_A (io), 83 PR9A/RLM0_PLLT_IN_A (io), 85 PR8B/DI/CSSPIN (io), 86 PR8A/DOUT/CSON (io), 87 PR7B/BUSY/SISPI (io), 88 PR7A/D7/SPID0 (io)
part E pins: 56 PB10A/WRITEN (io), 57 PB10B/CS1N (io), 58 PB11A/VREF1_4 (io), 59 PB11B/CSN (io), 60 PB12A/VREF2_4 (io), 61 PB12B/D0/SPID7 (io), 62 PB13A/D2/SPID5 (io), 64 PB13B/D1/SPID6 (io), 65 PB14A/BDQS14 (io), 66 PB14B/D3/SPID4 (io), 67 PB15A (io), 68 PB15B/D4/SPID3 (io), 69 PB16B/D5/SPID2 (io), 70 PB17B/D6/SPID1 (io)
part F pins: 39 PB2A (io), 40 PB2B (io), 41 PB3A (io), 42 PB3B (io), 43 PB5B (io), 45 PB6A/BDQS6 (io), 46 PB6B (io), 47 PB7A (io), 48 PB7B (io), 49 PB8A/VREF2_5 (io), 50 PB8B/VREF1_5 (io), 51 PB9A/PCLKT5_0 (io), 53 PB9B/PCLKC5_0 (io)
part G pins: 20 PL7A/LLM0_PLLT_IN_A (io), 21 PL7B/LLM0_PLLC_IN_A (io), 22 PL8A/LLM0_PLLT_FB_A (io), 23 PL8B/LLM0_PLLC_FB_A (io), 25 PL9A (io), 26 PL9B (io), 27 PL10A (io), 29 PL10B (io), 30 PL11A/LDQS11 (io), 31 PL11B (io), 32 PL12A (io), 33 PL12B (io), 34 PL14A/VREF1_6 (io), 35 PL14B/VREF2_6 (io)
part H pins: 2 PL2A/VREF2_7 (io), 3 PL2B/VREF1_7 (io), 4 PL3A (io), 5 PL3B (io), 6 PL4A (io), 7 PL4B (io), 8 PL5A/PCLKT7_0 (io), 9 PL5B/PCLKC7_0 (io)
part I pins: 10 XRES, 14 TCK (in), 16 TDI (in), 17 TMS (in), 18 TDO (out), 89 CFG2 (in), 90 CFG1 (in), 91 CFG0 (in), 93 PROGRAMN (in), 94 CCLK (io), 95 INITN (io), 97 DONE (io)
part J pins: 1 VCCIO7 (power), 13 VCC (power), 19 VCCJ (power), 24 VCCIO6 (power), 36 VCCIO6 (power), 38 VCCIO5 (power), 44 VCCIO5 (power), 54 VCCAUX (power), 55 VCCIO4 (power), 71 VCCIO4 (power), 73 VCCIO3 (power), 84 VCCIO3 (power), 92 VCC (power), 99 VCC (power), 108 VCCIO2 (power), 110 VCCIO1 (power), 125 VCCIO1 (power), 126 VCCAUX (power), 136 VCCIO0 (power), 143 VCCIO0 (power)
part K pins: 15 GND (power), 28 GND6 (power), 37 GND5-GND6 (power), 52 GND5 (power), 63 GND4 (power), 72 GND3-GND4 (power), 80 GND3 (power), 96 GND (power), 98 GND (power), 109 GND1-GND2 (power), 117 GND1 (power), 128 GND0 (power), 144 GND0-GND7 (power)
part L pins: 11 NC, 12 NC
part A text: BANK 0
part B text: BANK 1
part C text: BANK 2
part D text: BANK 3
part E text: BANK 4
part F text: BANK 5
part G text: BANK 6
part H text: BANK 7

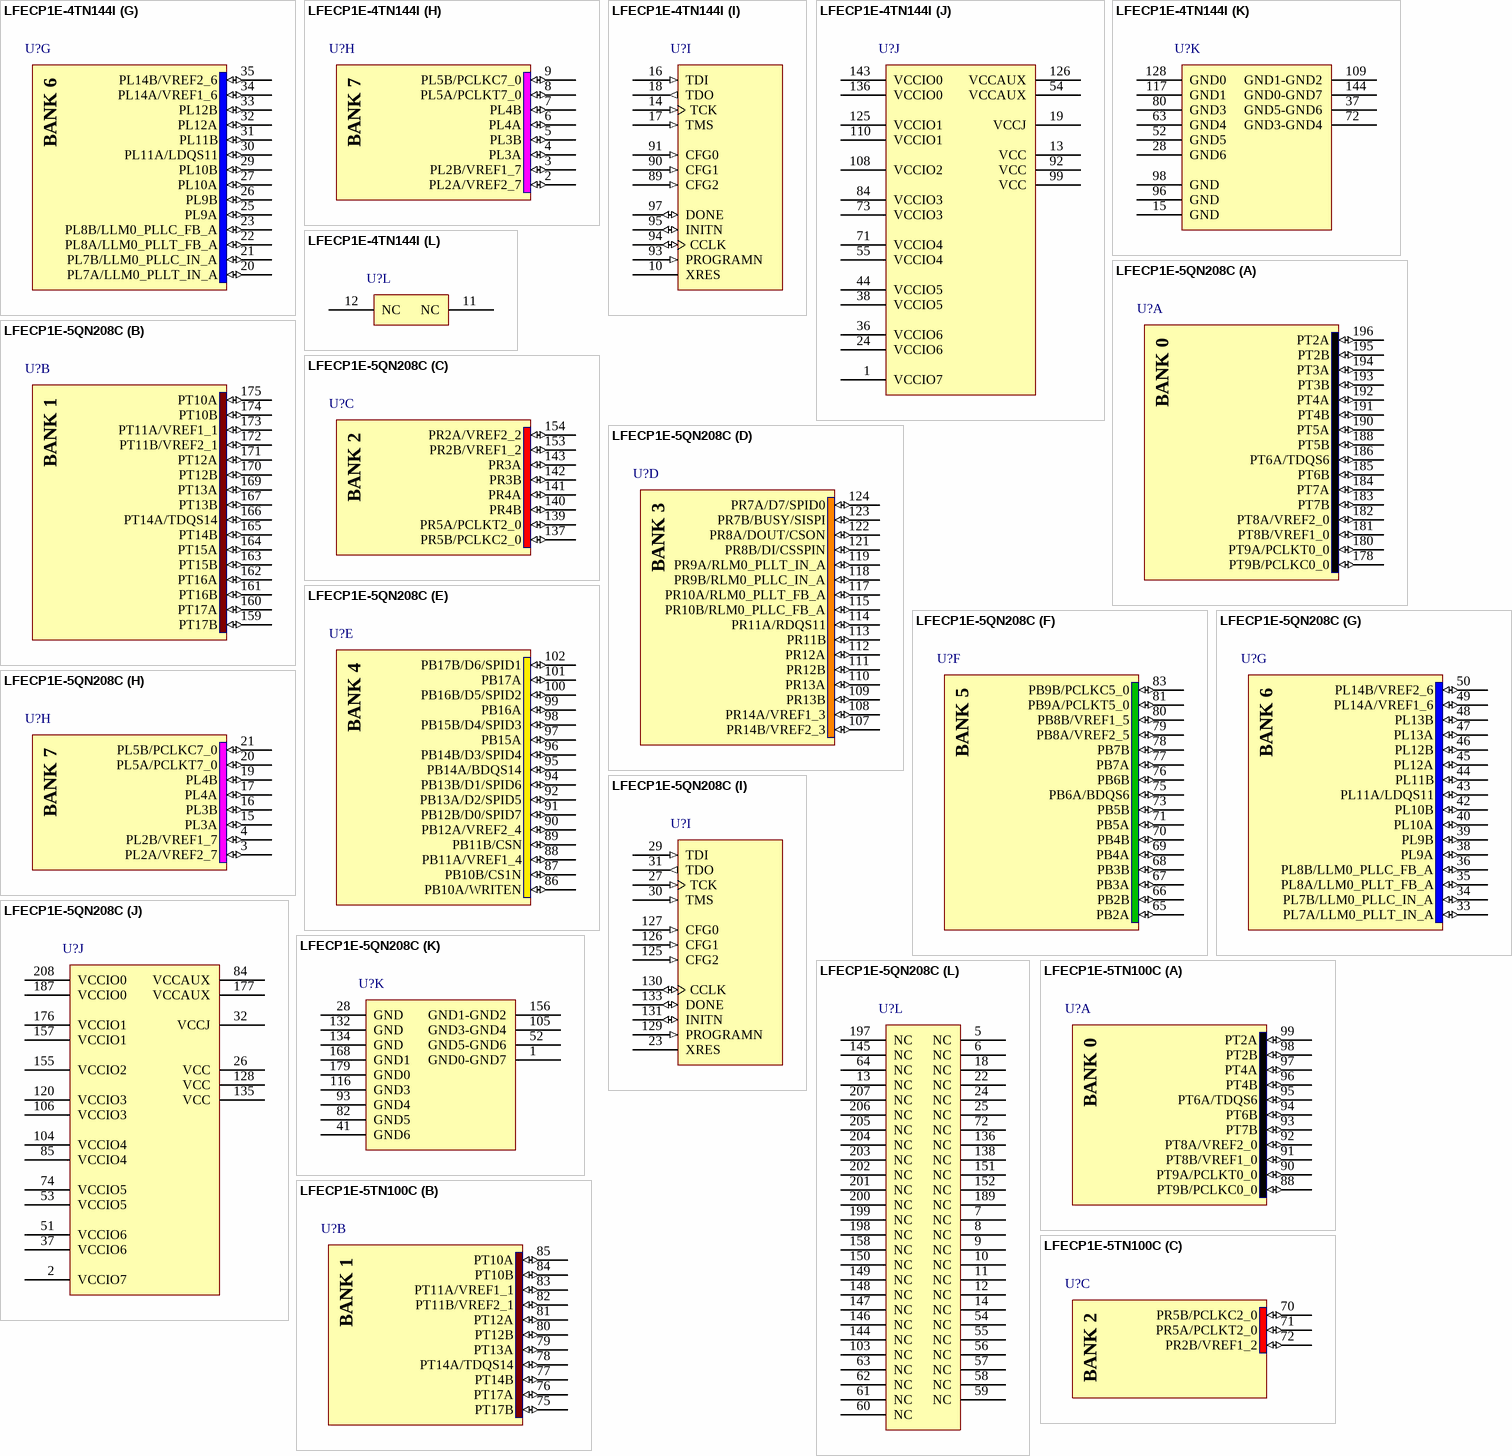
[diagram p6: symbols LFECP1E-4TN144I to LFECP1E-5TN100C]